# Altium schematic symbol library General - copia.SchLib: 201 symbols (part 2 of 3)
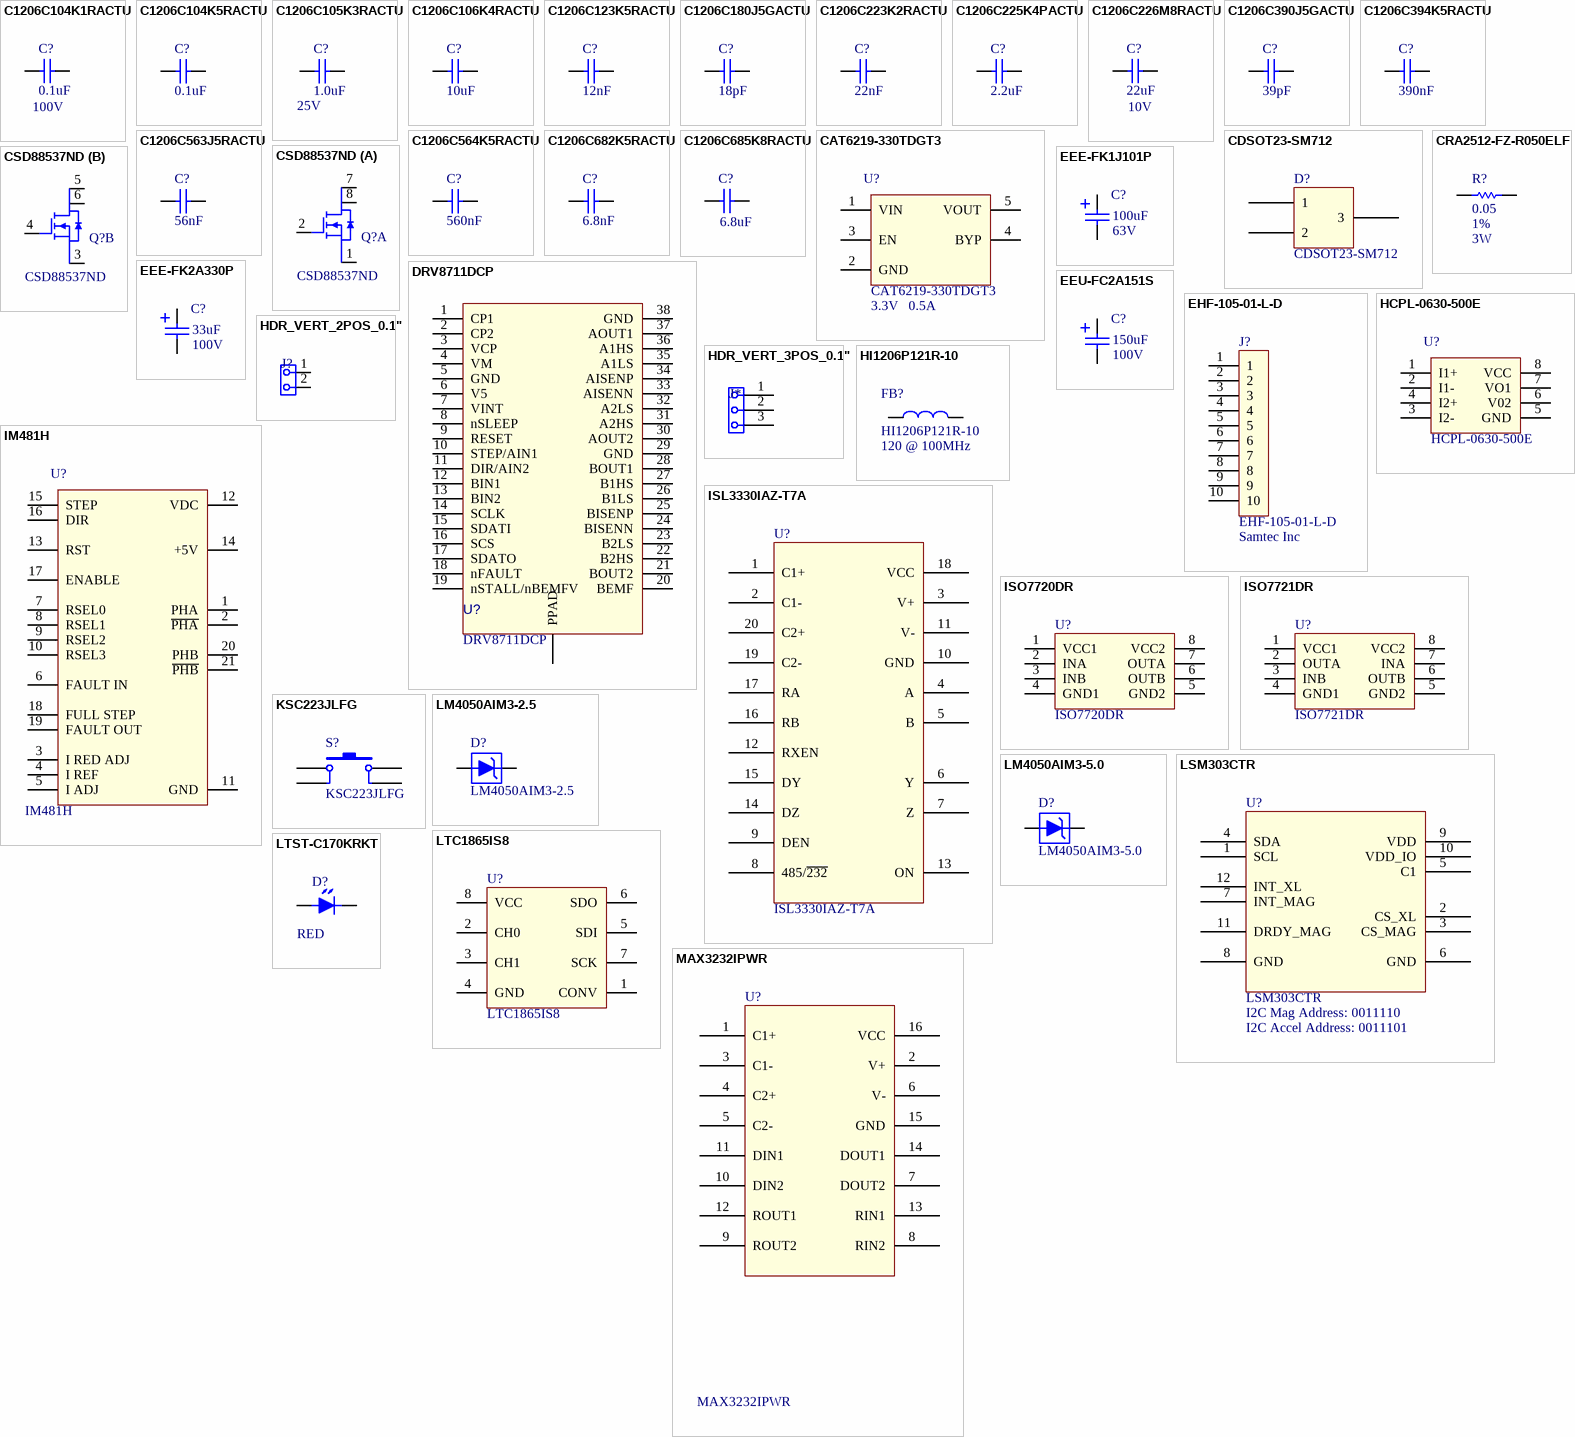
[diagram p8: symbols C1206C104K1RACTU to MAX3232IPWR]

## EEU-FC2A151S
designator C?  value 150uF  Voltage: 100V
CAP ALUM 150UF 20% 100V RADIAL; Part Number: EEU-FC2A151S; Manufacturer: Panasonic Electronic Components; Supplier 1: Digi-Key; Supplier Part Number 1: P10778-ND; Supplier 2: Mouser; Supplier Part Number 2: 667-EEU-FC2A151S
footprint EEU-FC2A151S (CAP ALUM 18x15)
pins: 1, 2

## EHF-105-01-L-D
designator J?  Part Number: EHF-105-01-L-D  Manufacturer: Samtec Inc  (hidden comment: *)
CONN HEADER .05" 10 POS DUAL T/H; Supplier 1: Digi-Key; Supplier Part Number 1: SAM8205-ND; Supplier 2: Mouser; Supplier Part Number 2: 649-221611-00010T4LF
footprint SAMTEC EHF-105-01-L-D
pins: 1, 2, 3, 4, 5, 6, 7, 8, 9, 10

## HCPL-0630-500E
designator U?  Part Number: HCPL-0630-500E  (hidden comment: *)
OPTOISO 3.75KV 2CH OPEN COLL 8SO; Manufacturer: Avago Technologies US Inc.; Supplier 1: Digi-Key; Supplier Part Number 1: 516-1487-1-ND; Supplier 2: Mouser; Supplier Part Number 2: 630-HCPL-0630-500E
footprint SOIC8 (SOIC, 8-Leads, Body 5.0x4.0mm (max), Pitch 1.27mm, IPC Medium Density)
pins: 1 I1+, 2 I1-, 3 I2-, 4 I2+, 5 GND, 6 V02, 7 VO1, 8 VCC

## HDR_VERT_2POS_0.1"
designator J?  (value not drawn)
footprint PIN2 (Radial Cap, Thru-Hole; 2 Leads; 0.1 in Pin Spacing)
pins: 1, 2

## HDR_VERT_3POS_0.1"
designator J*  (value not drawn)
footprint PIN3
pins: 1, 2, 3

## HI1206P121R-10
designator FB?  value 120 @ 100MHz
FERRITE CHIP 4A 120 OHM SMD; Manufacturer: Steward; Part Number: HI1206P121R-10; Supplier 1: Digi-Key; Supplier Part Number 1: 240-2410-1-ND; Supplier 2: Mouser; Supplier Part Number 2: 875-HI1206P121R-10
footprint 1206 - IND - INDC3216X12N (Chip, 2-Leads, Body 3.2x1.6mm, IPC Medium Density)
pins: 1, 2

## IM481H
designator U?  Manufacturer PN: IM481H  (hidden comment: *)
Manufacturer: Schneider
footprint IM481H
pins: 1 PHA, 2 ~{PHA}, 3 I RED ADJ, 4 I REF, 5 I ADJ, 6 FAULT IN, 7 RSEL0, 8 RSEL1, 9 RSEL2, 10 RSEL3, 11 GND, 12 VDC, 13 RST, 14 +5V, 15 STEP, 16 DIR, 17 ENABLE, 18 FULL STEP, 19 FAULT OUT, 20 PHB, 21 ~{PHB}

## ISL3330IAZ-T7A
designator U?
IC TXRX RS232/485 DUAL 20SSOP; Manufacturer: Intersil; Part Number: ISL3330IAZ-T7A; Supplier 1: Digi-Key; Supplier 2: Mouser; Supplier Part Number 1: ISL3330IAZ-ND; Supplier Part Number 2: 968-ISL3330IAZ-T7A
footprint TSSOP20 (TSOP, 14-Leads, Body 5.1x4.5mm (max), Pitch 0.65mm, IPC Low Density)
pins: 1 C1+, 2 C1-, 3 V+, 4 A, 5 B, 6 Y, 7 Z, 8 485/~{232}, 9 DEN, 10 GND, 11 V-, 12 RXEN, 13 ON, 14 DZ, 15 DY, 16 RB, 17 RA, 18 VCC, 19 C2-, 20 C2+

## ISO7720DR
designator U?
DGTL ISO 3KV GEN PRP 8SOIC 2/0; Manufacturer: Texas Instruments; Supplier 1: Digi-Key; Supplier Part Number 1: 296-47780-1-ND; Supplier 2: Mouser; Supplier Part Number 2: 595-ISO7720DR; Part Number: ISO7720DR
footprint SOIC127P600X175-8N (SOIC, 8-Leads, Body 4,90x3,90mm, Pitch 1,27mm, IPC Medium Density)
pins: 1 VCC1, 2 INA, 3 INB, 4 GND1, 5 GND2, 6 OUTB, 7 OUTA, 8 VCC2

## ISO7721DR
designator U?
DGTL ISO 3KV GEN PRP 8SOIC 1/1; Manufacturer: Texas Instruments; Supplier 1: Digi-Key; Supplier Part Number 1: 296-48296-1-ND; Supplier 2: Mouser; Supplier Part Number 2: 595-ISO7721DR; Part Number: ISO7721DR
footprint SOIC127P600X175-8N (SOIC, 8-Leads, Body 4,90x3,90mm, Pitch 1,27mm, IPC Medium Density)
pins: 1 VCC1, 2 OUTA, 3 INB, 4 GND1, 5 GND2, 6 OUTB, 7 INA, 8 VCC2

## KSC223JLFG
designator S?
SWITCH TACTILE SPST-NO 0.01A 32V; Manufacturer: C&K; Part Number: KSC223JLFG; Supplier 1: Digi-Key; Supplier Part Number 1: CKN12117CT-ND; Supplier 2: Mouser; Supplier Part Number 2: 611-KSC223JLFG
footprint KSC_J
pins: 1, 2, 3, 4

## LM4050AIM3-2.5
designator D?
IC VREF SHUNT 2.5V SOT23-3; Manufacturer: Texas Instruments; Voltage: 2.5V; Part Number: LM4050AIM3-2.5; Supplier 1: Digi-Key; Supplier Part Number 1: LM4050AIM3-2.5CT-ND; Supplier 2: Mouser; Supplier Part Number 2: 926-LM4050AIM3-25
footprint SOT23_3P_SOT95P280X140-3N (SOT23, 3-Leads, Body 3.0x3.0mm (max), Pitch 0.95mm, IPC Medium Density)
pins: 1 K, 2 A

## LM4050AIM3-5.0
designator D?
IC VREF SHUNT 5V SOT23-3; Manufacturer: Texas Instruments; Voltage: 5.0V; Part Number: LM4050AIM3-5.0; Supplier 1: Digi-Key; Supplier Part Number 1: LM4050AIM3-5.0/NOPBDKR-ND; Supplier 2: Mouser; Supplier Part Number 2: 926-LM4050AIM350NOPB
footprint SOT23_3P_SOT95P280X140-3N (SOT23, 3-Leads, Body 3.0x3.0mm (max), Pitch 0.95mm, IPC Medium Density)
pins: 1 K, 2 A

## LSM303CTR
designator U?  I2C Mag Address: 0011110  I2C Accel Address: 0011101  (hidden comment: LSM303CTR)
IMU ACCEL/MAG I2C/SPI 12LGA; Manufacturer: STMicroelectronics; Supplier 1: Digi-Key; Supplier Part Number 1: 497-14085-1-ND; Supplier 2: Mouser; Supplier Part Number 2: 511-LSM303CTR; Part Number: LSM303CTR
pins: 1 SCL, 2 CS_XL, 3 CS_MAG, 4 SDA, 5 C1, 6 GND, 7 INT_MAG, 8 GND, 9 VDD, 10 VDD_IO, 11 DRDY_MAG, 12 INT_XL

## LTC1865IS8
designator U?  Part Number: LTC1865IS8  (hidden comment: *)
IC A/D CONV 2CH 16BIT 8-SOIC; Manufacturer: Microchip Technology; Supplier 1: Digi-Key; Supplier Part Number 1: LTC1865IS8#PBF-ND
footprint SOIC8 (SOIC, 8-Leads, Body 5.0x4.0mm (max), Pitch 1.27mm, IPC Medium Density)
pins: 1 CONV, 2 CH0, 3 CH1, 4 GND, 5 SDI, 6 SDO, 7 SCK, 8 VCC

## LTST-C170KRKT
designator D?, comment RED
LED RED CLEAR 0805 SMD; Manufacturer: Lite-On Inc; Part Number: LTST-C170KRKT; Supplier 1: Digi-Key; Supplier Part Number 1: 160-1415-6-ND; Supplier 2: Mouser; Supplier Part Number 2: 859-LTST-C170KRKT
footprint 0805 - LED - LEDC2012X06N (Chip Led 2-Leads, Body 2.0x1.3mm, IPC Medium Density)
pins: 1 A, 2 K

## MAX3232IPWR
designator U?  Part Number: MAX3232IPWR  (hidden comment: *)
IC DRVR/RCVR MLTCH RS232 16TSSOP; Manufacturer: Texas Instruments; Supplier 1: Digi-Key; Supplier Part Number 1: 296-13100-6-ND; Supplier 2: Mouser; Supplier Part Number 2: 595-MAX3232IPWR
footprint TSSOP 16 - TSOP65P640X120-16M (TSOP, 16-Leads, Body 5,1x4,5mm (max), Pitch 0,65mm, IPC Low Density)
pins: 1 C1+, 2 V+, 3 C1-, 4 C2+, 5 C2-, 6 V-, 7 DOUT2, 8 RIN2, 9 ROUT2, 10 DIN2, 11 DIN1, 12 ROUT1, 13 RIN1, 14 DOUT1, 15 GND, 16 VCC

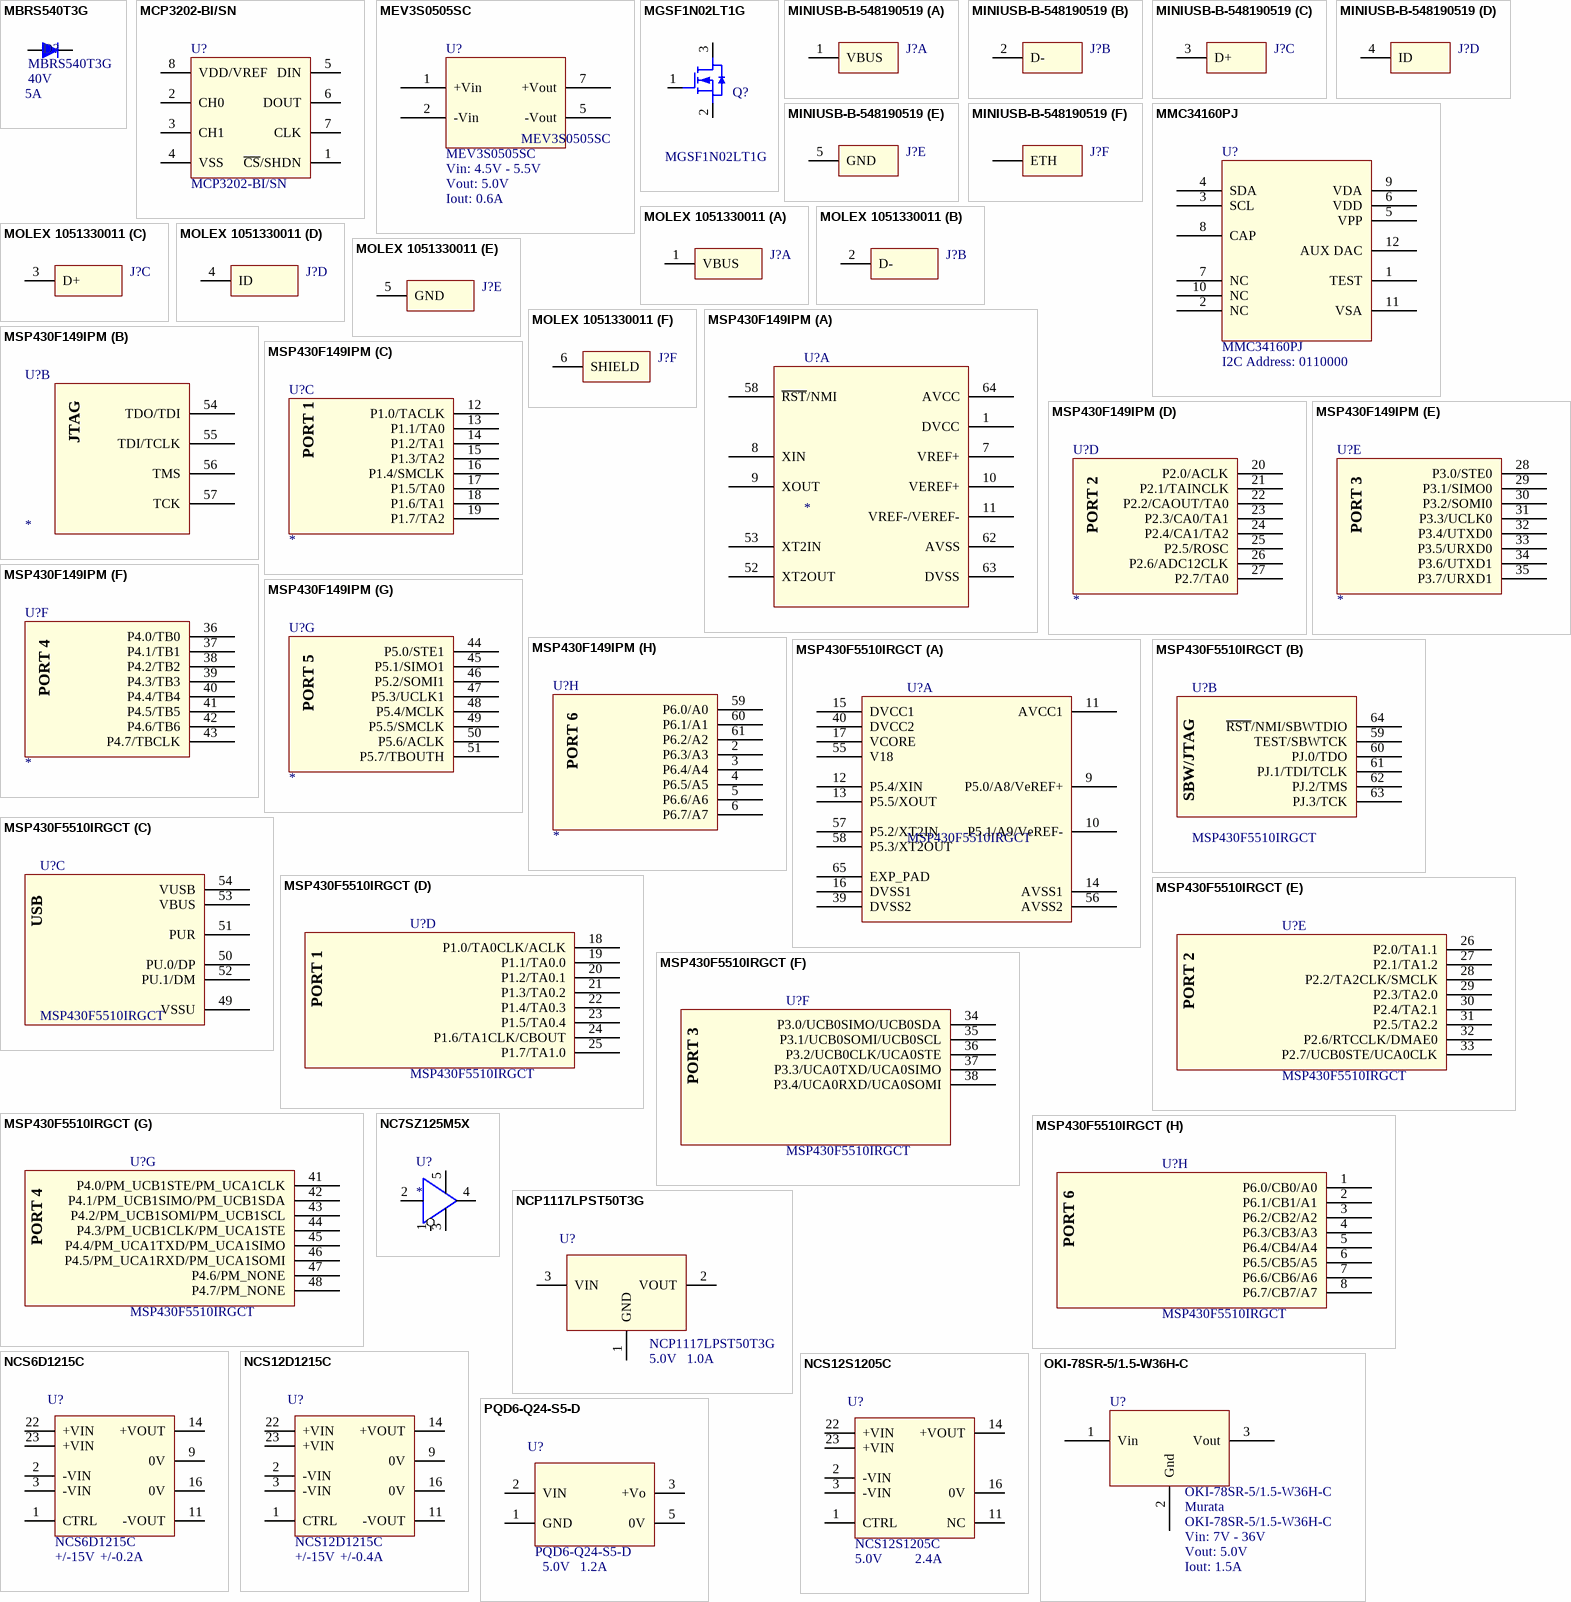
[diagram p3: symbols MBRS540T3G to PQD6-Q24-S5-D]

## MBRS540T3G
designator D?  Part Number: MBRS540T3G  Voltage: 40V  Current: 5A
DIODE SCHOTTKY 40V 5A SMC; Manufacturer: On Semiconductors; Supplier 1: Digi-Key; Supplier Part Number 1: MBRS540T3GOSDKR-ND; Supplier 2: Mouser; Supplier Part Number 2: 863-MBRS540T3G
footprint SMC - DIODE UNIDIR - DIOM6959X25M (Molded Diode, 2-Leads, Body 6,9x5,9mm, IPC Low Density)
pins: 1 A, 2 K

## MCP3202-BI/SN
designator U?
IC ADC 12BIT 2.7V 2CH SPI 8MSOP; Manufacturer: Microchip Technology; Supplier 1: Digi-Key; Supplier Part Number 1: MCP3202-BI/SN-ND; Supplier 2: Mouser; Supplier Part Number 2: 579-MCP3202BISN; Part Number: MCP3202-BI/SN
footprint SOIC127P600X175-8N (SOIC, 8-Leads, Body 4,90x3,90mm, Pitch 1,27mm, IPC Medium Density)
pins: 1 ~{CS}/SHDN, 2 CH0, 3 CH1, 4 VSS, 5 DIN, 6 DOUT, 7 CLK, 8 VDD/VREF

## MEV3S0505SC
designator U?  Vin: 4.5V - 5.5V  Iout: 0.6A  Vout: 5.0V
DC DC CONVERTER 5V 3W; Manufacturer: Murata Power Solutions Inc.; Isolation: 3000V; Supplier 1: Digi-Key; Supplier Part Number 1: 811-2116-5-ND; Supplier 2: Mouser; Supplier Part Number 2: 580-MEV3S0505SC; Part Number: MEV3S0505SC
footprint MEV3S0505SC
pins: 1 +Vin, 2 -Vin, 5 -Vout, 7 +Vout

## MGSF1N02LT1G
designator Q?
MOSFET N-CH 20V 750MA SOT23; Manufacturer: ON Semiconductor; Supplier 1: Digi-Key; Supplier Part Number 1: MGSF1N02LT1GOSDKR-ND; Supplier 2: Mouser; Supplier Part Number 2: 863-MGSF1N02LT1G; Part Number: MGSF1N02LT1G
footprint SOT23_3P_SOT95P280X140-3N (SOT23, 3-Leads, Body 3.0x3.0mm (max), Pitch 0.95mm, IPC Medium Density)
pins: 1 G, 2 S, 3 D

## MINIUSB-B-548190519
designator J?, comment Mini USB Type B  (value not drawn)
CONN USB RECEPTACLE 5POS RT ANG; Part Number: 548190519; Manufacturer: Molex; Supplier 1: Digi-Key; Supplier Part Number 1: WM17115-ND; Supplier 2: Mouser; Supplier Part Number 2: 538-54819-0519
footprint MOLEX-MINIUSB-B-548190519 (Conector Mini USB Type B Through Hole)
part A pins: 1 VBUS
part B pins: 2 D-
part C pins: 3 D+
part D pins: 4 ID
part E pins: 5 GND
part F pins: 6 ETH

## MMC34160PJ
designator U?  I2C Address: 0110000  (hidden comment: MMC34160PJ)
SENSOR MAGMTR I2C 12BGA; Manufacturer: Memsic Inc.; Supplier 1: Digi-Key; Supplier Part Number 1: 1267-1062-1-ND; Supplier 2: Mouser; Supplier Part Number 2: 438-MMC34160PJ; Part Number: MMC34160PJ
footprint BGA12C40P4X4_160X160X72 (BGA, 12-Leads, Body 1,60x1,60mmx0,72mm, Pitch 0,40mm)
pins: 1 TEST, 2 NC, 3 SCL, 4 SDA, 5 VPP, 6 VDD, 7 NC, 8 CAP, 9 VDA, 10 NC, 11 VSA, 12 AUX DAC

## MOLEX 1051330011
designator J?, comment 1051330011  (value not drawn)
CONN RCPT USB2.0 MICRO B SMD; Manufacturer: Molex; Part Number: 1051330011; Supplier 1: Digi-Key; Supplier Part Number 1: WM10134CT-ND; Supplier 2: Mouser; Supplier Part Number 2: 538-105133-0011
footprint MOLEX 1051330011 (Micro USB Type B Vertical)
part A pins: 1 VBUS
part B pins: 2 D-
part C pins: 3 D+
part D pins: 4 ID
part E pins: 5 GND
part F pins: 6 SHIELD

## MSP430F149IPM
designator U?
IC MCU 16BIT 60KB FLASH 64LQFP; Part Number: MSP430F149IPM; Fabricante: Texas Instruments
footprint TQFP - 64 - TSQFP50P1200X1200X160-64M (TSQFP, 64-Leads, Body 12,0x12,0mm (max), Pitch 0,50mm, IPC Low Density)
part A pins: 1 DVCC, 7 VREF+, 8 XIN, 9 XOUT, 10 VEREF+, 11 VREF-/VEREF-, 52 XT2OUT, 53 XT2IN, 58 ~{RST}/NMI, 62 AVSS, 63 DVSS, 64 AVCC
part B pins: 54 TDO/TDI, 55 TDI/TCLK, 56 TMS, 57 TCK
part C pins: 12 P1.0/TACLK, 13 P1.1/TA0, 14 P1.2/TA1, 15 P1.3/TA2, 16 P1.4/SMCLK, 17 P1.5/TA0, 18 P1.6/TA1, 19 P1.7/TA2
part D pins: 20 P2.0/ACLK, 21 P2.1/TAINCLK, 22 P2.2/CAOUT/TA0, 23 P2.3/CA0/TA1, 24 P2.4/CA1/TA2, 25 P2.5/ROSC, 26 P2.6/ADC12CLK, 27 P2.7/TA0
part E pins: 28 P3.0/STE0, 29 P3.1/SIMO0, 30 P3.2/SOMI0, 31 P3.3/UCLK0, 32 P3.4/UTXD0, 33 P3.5/URXD0, 34 P3.6/UTXD1, 35 P3.7/URXD1
part F pins: 36 P4.0/TB0, 37 P4.1/TB1, 38 P4.2/TB2, 39 P4.3/TB3, 40 P4.4/TB4, 41 P4.5/TB5, 42 P4.6/TB6, 43 P4.7/TBCLK
part G pins: 44 P5.0/STE1, 45 P5.1/SIMO1, 46 P5.2/SOMI1, 47 P5.3/UCLK1, 48 P5.4/MCLK, 49 P5.5/SMCLK, 50 P5.6/ACLK, 51 P5.7/TBOUTH
part H pins: 2 P6.3/A3, 3 P6.4/A4, 4 P6.5/A5, 5 P6.6/A6, 6 P6.7/A7, 59 P6.0/A0, 60 P6.1/A1, 61 P6.2/A2
part B text: JTAG
part C text: PORT 1
part D text: PORT 2
part E text: PORT 3
part F text: PORT 4
part G text: PORT 5
part H text: PORT 6

## MSP430F5510IRGCT
designator U?
IC MCU 16BIT 32KB FLASH 64VQFN; Manufacturer: Texas Instruments; Part Number: MSP430F5510IRGCT; Supplier 1: Digi-Key; Supplier Part Number 1: 296-31691-1-ND; Supplier 2: Mouser; Supplier Part Number 2: 595-MSP430F5510IRGCT
footprint QFN50P900X900X100_HS-65N (QFN, 64-Leads, Body 9,00x9,00mm, Pitch 0,50mm, Thermal Pad 4,25x4,25mm, IPC Medium Density)
part A pins: 9 P5.0/A8/VeREF+, 10 P5.1/A9/VeREF-, 11 AVCC1, 12 P5.4/XIN, 13 P5.5/XOUT, 14 AVSS1, 15 DVCC1, 16 DVSS1, 17 VCORE, 39 DVSS2, 40 DVCC2, 55 V18, 56 AVSS2, 57 P5.2/XT2IN, 58 P5.3/XT2OUT, 65 EXP_PAD
part B pins: 59 TEST/SBWTCK, 60 PJ.0/TDO, 61 PJ.1/TDI/TCLK, 62 PJ.2/TMS, 63 PJ.3/TCK, 64 ~{RST}/NMI/SBWTDIO
part C pins: 49 VSSU, 50 PU.0/DP, 51 PUR, 52 PU.1/DM, 53 VBUS, 54 VUSB
part D pins: 18 P1.0/TA0CLK/ACLK, 19 P1.1/TA0.0, 20 P1.2/TA0.1, 21 P1.3/TA0.2, 22 P1.4/TA0.3, 23 P1.5/TA0.4, 24 P1.6/TA1CLK/CBOUT, 25 P1.7/TA1.0
part E pins: 26 P2.0/TA1.1, 27 P2.1/TA1.2, 28 P2.2/TA2CLK/SMCLK, 29 P2.3/TA2.0, 30 P2.4/TA2.1, 31 P2.5/TA2.2, 32 P2.6/RTCCLK/DMAE0, 33 P2.7/UCB0STE/UCA0CLK
part F pins: 34 P3.0/UCB0SIMO/UCB0SDA, 35 P3.1/UCB0SOMI/UCB0SCL, 36 P3.2/UCB0CLK/UCA0STE, 37 P3.3/UCA0TXD/UCA0SIMO, 38 P3.4/UCA0RXD/UCA0SOMI
part G pins: 41 P4.0/PM_UCB1STE/PM_UCA1CLK, 42 P4.1/PM_UCB1SIMO/PM_UCB1SDA, 43 P4.2/PM_UCB1SOMI/PM_UCB1SCL, 44 P4.3/PM_UCB1CLK/PM_UCA1STE, 45 P4.4/PM_UCA1TXD/PM_UCA1SIMO, 46 P4.5/PM_UCA1RXD/PM_UCA1SOMI, 47 P4.6/PM_NONE, 48 P4.7/PM_NONE
part H pins: 1 P6.0/CB0/A0, 2 P6.1/CB1/A1, 3 P6.2/CB2/A2, 4 P6.3/CB3/A3, 5 P6.4/CB4/A4, 6 P6.5/CB5/A5, 7 P6.6/CB6/A6, 8 P6.7/CB7/A7
part B text: SBW/JTAG
part C text: USB
part D text: PORT 1
part E text: PORT 2
part F text: PORT 3
part G text: PORT 4
part H text: PORT 6

## NC7SZ125M5X
designator U?
IC BUFF TRI-ST UHS N-INV SOT23-5; Part Number: NC7SZ125M5X; Manufacturer: Fairchild Semiconductor; Supplier 1: Digi-Key; Supplier Part Number 1: NC7SZ125M5CT-ND; Supplier 2: Mouser; Supplier Part Number 2: 512-NC7SZ125M5X
footprint SOT23_5P_SOT95P280X140-5N (SOT23, 5-Leads, Body 3.0x3.0mm (max), Pitch 0.95mm, IPC Medium Density)
pins: 1 OE, 2 A, 3 GND, 4 Y, 5 VCC

## NCP1117LPST50T3G
designator U?  Part Number: NCP1117LPST50T3G  Voltage: 5.0V  Current: 1.0A  (hidden comment: *)
IC REG LDO 5V 1A SOT223; Manufacturer: ON Semiconductor; Supplier 1: Digi-Key; Supplier Part Number 1: NCP1117LPST50T3GOSDKR-ND; Supplier 2: Mouser; Supplier Part Number 2: 863-NCP1117LPST50T3G
footprint SOT223 (SOT223, 4-Leads, Body 6.50x7.00mm (avg), Pitch 2.30mm, IPC Medium Density)
pins: 1 GND, 2 VOUT, 3 VIN

## NCS6D1215C
designator U?  Part Number: NCS6D1215C  Voltage: +/-15V  Current: +/-0.2A  (hidden comment: *)
DC/DC CONVERTER +/-15V 6W; Manufacturer: Murata Power Solutions Inc.; Supplier 1: Digi-Key; Supplier Part Number 1: 811-2312-ND
footprint NCS12DXXXXC
pins: 1 CTRL, 2 -VIN, 3 -VIN, 9 0V, 11 -VOUT, 14 +VOUT, 16 0V, 22 +VIN, 23 +VIN

## NCS12D1215C
designator U?  Part Number: NCS12D1215C  Voltage: +/-15V  Current: +/-0.4A  (hidden comment: *)
DC/DC CONVERTER +/-15V 12W; Manufacturer: Murata Power Solutions Inc.
footprint NCS12DXXXXC
pins: 1 CTRL, 2 -VIN, 3 -VIN, 9 0V, 11 -VOUT, 14 +VOUT, 16 0V, 22 +VIN, 23 +VIN

## NCS12S1205C
designator U?  Part Number: NCS12S1205C  Voltage: 5.0V  Current: 2.4A  (hidden comment: *)
DC/DC CONVERTER 5V 12W; Manufacturer: Murata Power Solutions Inc.; Supplier 1: Digi-Key; Supplier Part Number 1: 811-2873-5-ND
footprint NCS12SXXXXC
pins: 1 CTRL, 2 -VIN, 3 -VIN, 11 NC, 14 +VOUT, 16 0V, 22 +VIN, 23 +VIN

## OKI-78SR-5/1.5-W36H-C
designator U?  Vin: 7V - 36V  Vout: 5.0V  Iout: 1.5A  Manufacturer: Murata
DC/DC 8-36VIN/3.3VOUT .5A HSIP; Supplier 1: Digi-Key; Supplier Part Number 1: 811-2692-ND; Supplier 2: Mouser; Supplier Part Number 2: 580-OKI78SR51.5W36HC; Part Number: OKI-78SR-5/1.5-W36H-C
footprint MURATA - OKI-78SR - HORIZONTAL (Non-Isolated DC-DC Converter)
footprint MURATA - OKI-78SR - VERT (Non-Isolated DC-DC Converter)
pins: 1 Vin, 2 Gnd, 3 Vout

## PQD6-Q24-S5-D
designator U?  Part Number: PQD6-Q24-S5-D  Voltage: 5.0V  Current: 1.2A  (hidden comment: *)
DC/DC CONVERTER 5V 1.2A 6W; Manufacturer: CUI Inc.
footprint PQD6-Q24-S5-D (DC/DC CONVERTER 5V 1.2A 6W)
pins: 1 GND, 2 VIN, 3 +Vo, 5 0V

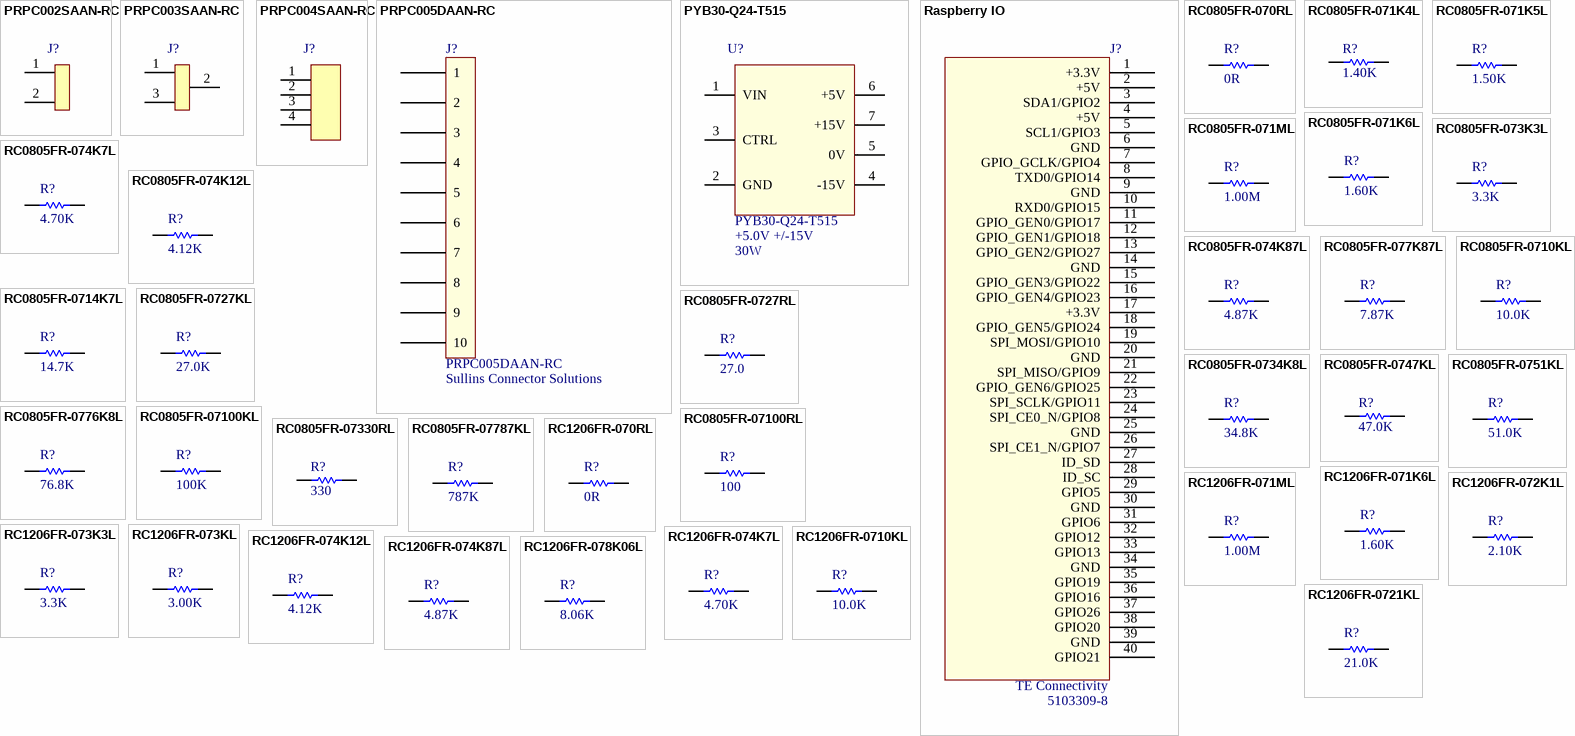
[diagram p4: symbols PRPC002SAAN-RC to RC1206FR-0721KL]

## PRPC002SAAN-RC
designator J?  (value not drawn)
CONN HEADER .100" SNGL STR 2POS; Manufacturer: Sullins Connector Solutions; Part Number: PRPC002SAAN-RC; Supplier 1: Digi-Key; Supplier Part Number 1: S1011EC-02-ND
footprint PRPC002SAAN-RC
pins: 1, 2

## PRPC003SAAN-RC
designator J?  (value not drawn)
CONN HEADER .100" SNGL STR 3POS; Manufacturer: Sullins Connector Solutions; Part Number: PRPC003SAAN-RC; Supplier 1: Digi-Key; Supplier Part Number 1: S1011EC-03-ND
footprint PRPC003SAAN-RC
pins: 1, 2, 3

## PRPC004SAAN-RC
designator J?  (value not drawn)
CONN HEADER .100" SNGL STR 4POS; Manufacturer: Sullins Connector Solutions; Part Number: PRPC004SAAN-RC; Supplier 1: Digi-Key; Supplier Part Number 1: S1011EC-04-ND
footprint PRPC004SAAN-RC
pins: 1, 2, 3, 4

## PRPC005DAAN-RC
designator J?  Manufacturer: Sullins Connector Solutions  Part Number: PRPC005DAAN-RC
CONN HEADER .100" DUAL STR 10POS; Supplier 1: Digi-Key; Supplier Part Number 1: S2011EC-05-ND
footprint PRPC005DAAN-RC
pins: 1, 2, 3, 4, 5, 6, 7, 8, 9, 10

## PYB30-Q24-T515
designator U?  Part Number: PYB30-Q24-T515  Voltage: +5.0V +/-15V  Current: 30W  (hidden comment: *)
DC/DC CONVERTER 5V +/-15V 30W; Manufacturer: CUI Inc.; Supplier 1: Digi-Key; Supplier Part Number 1: 102-2953-ND; Supplier 2: Mouser; Supplier Part Number 2: 490-PYB30-Q24-T515
footprint PYB30-Q24-T515 (DC/DC CONVERTER 5V +/-15V 30W)
pins: 1 VIN, 2 GND, 3 CTRL, 4 -15V, 5 0V, 6 +5V, 7 +15V

## Raspberry IO
designator J?  Manufacturer: TE Connectivity  Part Number: 5103309-8
CONN HEADER VERT 40POS 2.54MM; Supplier 1: Digi-Key; Supplier Part Number 1: A33171-ND; Supplier 2: Mouser; Supplier Part Number 2: 571-5103309-8
footprint TE-640455-7 (CONN HEADER RTANG 2POS .100 TIN)
pins: 1 +3.3V, 2 +5V, 3 SDA1/GPIO2, 4 +5V, 5 SCL1/GPIO3, 6 GND, 7 GPIO_GCLK/GPIO4, 8 TXD0/GPIO14, 9 GND, 10 RXD0/GPIO15, 11 GPIO_GEN0/GPIO17, 12 GPIO_GEN1/GPIO18, 13 GPIO_GEN2/GPIO27, 14 GND, 15 GPIO_GEN3/GPIO22, 16 GPIO_GEN4/GPIO23, 17 +3.3V, 18 GPIO_GEN5/GPIO24, 19 SPI_MOSI/GPIO10, 20 GND, 21 SPI_MISO/GPIO9, 22 GPIO_GEN6/GPIO25, 23 SPI_SCLK/GPIO11, 24 SPI_CE0_N/GPIO8, 25 GND, 26 SPI_CE1_N/GPIO7, 27 ID_SD, 28 ID_SC, 29 GPIO5, 30 GND, 31 GPIO6, 32 GPIO12, 33 GPIO13, 34 GND, 35 GPIO19, 36 GPIO16, 37 GPIO26, 38 GPIO20, 39 GND, 40 GPIO21

## RC0805FR-070RL
designator R?  value 0R  (hidden comment: RC0805FR-070RL)
RES SMD 0.0 OHM JUMPER 1/8W 0805; Manufacturer: Yageo; Part Number: RC0805FR-070RL; Supplier 1: Digi-Key; Supplier Part Number 1: 311-0.0CRDKR-ND; Supplier 2: Digi-Key; Supplier Part Number 2: 311-0.0CRCT-ND; Supplier 3: Mouser; Supplier Part Number 3: 603-RC0805FR-070RL
footprint 0805 - RES - RESC2012X06N (Chip Resistor, 2-Leads, Body 2.0x1.3mm, IPC Medium Density)
pins: 1, 2

## RC0805FR-071K4L
designator R?  value 1.40K  (hidden comment: *)
RES SMD 1.4K OHM 1% 1/8W 0805; Manufacturer: Yageo; Manufacturer Part Number: RC0805FR-071K4L; Resistance: 1.4kR; Temperature Coefficient: 100ppm/°C; Power Rating: 125mW; Voltage Rating: 150V; Supplier 1: Digi-Key; RoHS: Yes; Category: Chip SMD Resistors; Stock 1: 156337; Pricing 1: 1=0,10000, 10=0,03600, 100=0,01470, 1000=0,00660, 2500=0,00573 (USD); Case/Package: 0805; Contact Plating: Tin,Matte; Case Code (Metric): 2012; Case Code (Imperial): 0805; Weight: 0.000194oz; Size Code: 0805; Min Operating Temperature: -55°C; Max Operating Temperature: 155°C; Tolerance: 1%; Resistor Type: Thick Film; Package Quantity: 1; Packaging: Tape and Reel; Number of Terminations: 2; Termination: SMD/SMT; Max Power Dissipation: 125mW; Voltage Rating (DC): 150V; Features: Moisture Resistant; Series: RC; Construction: Rectangular; Length: 2mm; Width: 0.049inch; Height: 0.024inch; Depth: 1.25mm; Radiation Hardening: No; Military Standard: Not; Lead Free: Lead Free; RoHS Compliant: Yes; ComponentLink1URL: https://datasheet.ciiva.com/2519/pyu-r-int-thick-7-2519780.pdf?src-supplier=Digi-Key; ComponentLink1Description: https://datasheet.ciiva.com/2519/pyu-r-int-thick-7-2519780.pdf?src-supplier=Digi-Key; ComponentLink2URL: https://datasheet.ciiva.com/2519/pyu-r-int-thick-7-2519781.pdf?src-supplier=Digi-Key; ComponentLink2Description: https://datasheet.ciiva.com/2519/pyu-r-int-thick-7-2519781.pdf?src-supplier=Digi-Key; ComponentLink3URL: https://datasheet.ciiva.com/5596/rc0805-5596057.pdf?src-supplier=Mouser; ComponentLink3Description: https://datasheet.ciiva.com/5596/rc0805-5596057.pdf?src-supplier=Mouser; ComponentLink4URL: https://datasheet.ciiva.com/2519/pyu-r-int-thick-7-2519782.pdf?src-supplier=Digi-Key; ComponentLink4Description: https://datasheet.ciiva.com/2519/pyu-r-int-thick-7-2519782.pdf?src-supplier=Digi-Key; ComponentLink5URL: https://datasheet.ciiva.com/17033/rc0805-17033654.pdf?src-supplier=Future+Electronics; ComponentLink5Description: https://datasheet.ciiva.com/17033/rc0805-17033654.pdf?src-supplier=Future+Electronics; Supplier Part Number 1: 311-1.40KCRCT-ND; Supplier 2: Digi-Key; Part Number: RC0805FR-071K4L; Supplier Part Number 2: 311-330CRCT-ND
footprint 0805 - RES - RESC2012X06N (Chip Resistor, 2-Leads, Body 2.0x1.3mm, IPC Medium Density)
pins: 1, 2

## RC0805FR-071K5L
designator R?  value 1.50K  (hidden comment: RC0805FR-071K5L)
RES SMD 1.5K OHM 1% 1/8W 0805; Manufacturer: Yageo; Tolerance: 1%; Part Number: RC0805FR-071K5L; Supplier 1: Digi-Key; Supplier Part Number 1: 311-1.50KCRCT-ND; Supplier 2: Mouser; Supplier Part Number 2: 603-RC0805FR-071K5L
footprint 0805 - RES - RESC2012X06N (Chip Resistor, 2-Leads, Body 2.0x1.3mm, IPC Medium Density)
pins: 1, 2

## RC0805FR-071K6L
designator R?  value 1.60K  (hidden comment: RC0805FR-071K6L)
RES SMD 1.6K OHM 1% 1/8W 0805; Manufacturer: Yageo; Tolerance: 1%; Part Number: RC0805FR-071K6L; Supplier 1: Digi-Key; Supplier Part Number 1: 311-1.60KCRDKR-ND; Supplier 2: Digi-Key; Supplier Part Number 2: 311-1.60KCRCT-ND; Supplier 3: Mouser; Supplier Part Number 3: 603-RC0805FR-071K6L
footprint 0805 - RES - RESC2012X06N (Chip Resistor, 2-Leads, Body 2.0x1.3mm, IPC Medium Density)
pins: 1, 2

## RC0805FR-071ML
designator R?  value 1.00M  (hidden comment: RC0805FR-071ML)
RES SMD 1M OHM 1% 1/8W 0805; Manufacturer: Yageo; Tolerance: 1%; Part Number: RC0805FR-071ML; Supplier 1: Digi-Key; Supplier Part Number 1: 311-1.00MCRDKR-ND; Supplier 2: Digi-Key; Supplier Part Number 2: 311-1.00MCRCT-ND; Supplier 3: Mouser; Supplier Part Number 3: 603-RC0805FR-071ML
footprint 0805 - RES - RESC2012X06N (Chip Resistor, 2-Leads, Body 2.0x1.3mm, IPC Medium Density)
pins: 1, 2

## RC0805FR-073K3L
designator R?  value 3.3K
RES SMD 3.3K OHM 1% 1/8W 0805; Manufacturer: Yageo; Part Number: RC0805FR-073K3L; Supplier 1: Digi-Key; Supplier Part Number 1: 311-3.30KCRCT-ND; Supplier 2: Mouser; Supplier Part Number 2: 603-RC0805FR-073K3L
footprint 0805 - RES - RESC2012X06N (Chip Resistor, 2-Leads, Body 2.0x1.3mm, IPC Medium Density)
pins: 1, 2

## RC0805FR-074K7L
designator R?  value 4.70K
RES SMD 4.7K OHM 1% 1/8W 0805; Manufacturer: Yageo; Part Number: RC0805FR-074K7L; Supplier 1: Digi-Key; Supplier Part Number 1: 311-4.70KCRCT-ND; Supplier 2: Mouser; Supplier Part Number 2: 603-RC0805FR-074K7L
footprint 0805 - RES - RESC2012X06N (Chip Resistor, 2-Leads, Body 2.0x1.3mm, IPC Medium Density)
pins: 1, 2

## RC0805FR-074K12L
designator R?  value 4.12K  (hidden comment: RC0805FR-074K12L)
RES SMD 4.12K OHM 1% 1/8W 0805; Manufacturer: Yageo; Part Number: RC0805FR-074K12L; Supplier 1: Digi-Key; Supplier Part Number 1: 311-4.12KCRDKR-ND; Supplier 2: Digi-Key; Supplier Part Number 2: 311-4.12KCRCT-ND; Supplier 3: Mouser; Supplier Part Number 3: 603-RC0805FR-074K12L
footprint 0805 - RES - RESC2012X06N (Chip Resistor, 2-Leads, Body 2.0x1.3mm, IPC Medium Density)
pins: 1, 2

## RC0805FR-074K87L
designator R?  value 4.87K  (hidden comment: RC0805FR-074K87L)
RES SMD 4.87K OHM 1% 1/4W 0805; Manufacturer: Yageo; Part Number: RC0805FR-074K87L; Supplier 1: Digi-Key; Supplier Part Number 1: 311-4.87KCRCT-ND; Supplier 2: Mouser; Supplier Part Number 2: 603-RC0805FR-074K87L
footprint 0805 - RES - RESC2012X06N (Chip Resistor, 2-Leads, Body 2.0x1.3mm, IPC Medium Density)
pins: 1, 2

## RC0805FR-077K87L
designator R?  value 7.87K  (hidden comment: RC0805FR-077K87L)
RES SMD 7.87K OHM 1% 1/8W 0805; Manufacturer: Yageo; Tolerance: 1%; Part Number: RC0805FR-077K87L; Supplier 1: Digi-Key; Supplier Part Number 1: 311-7.87KCRCT-ND; Supplier 2: Mouser; Supplier Part Number 2: 603-RC0805FR-077K87L
footprint 0805 - RES - RESC2012X06N (Chip Resistor, 2-Leads, Body 2.0x1.3mm, IPC Medium Density)
pins: 1, 2

## RC0805FR-0710KL
designator R?  value 10.0K  (hidden comment: RC0805FR-0710KL)
RES SMD 10.0K OHM 1% 1/8W 0805; Manufacturer: Yageo; Tolerance: 1%; Part Number: RC0805FR-0710KL; Supplier 1: Digi-Key; Supplier Part Number 1: 311-10.0KCRCT-ND; Supplier 2: Mouser; Supplier Part Number 2: 603-RC0805FR-0710KL
footprint 0805 - RES (Chip Resistor, 2-Leads, Body 2.00x1.25mm, IPC Medium Density)
pins: 1, 2

## RC0805FR-0714K7L
designator R?  value 14.7K  (hidden comment: RC0805FR-0714K7L)
RES SMD 14.7K OHM 1% 1/8W 0805; Manufacturer: Yageo; Tolerance: 1%; Part Number: RC0805FR-0714K7L; Supplier 1: Digi-Key; Supplier Part Number 1: 311-14.7KCRCT-ND; Supplier 2: Mouser; Supplier Part Number 2: 603-RC0805FR-0714K7L
footprint 0805 - RES - RESC2012X06N (Chip Resistor, 2-Leads, Body 2.0x1.3mm, IPC Medium Density)
pins: 1, 2

## RC0805FR-0727KL
designator R?  value 27.0K  (hidden comment: RC0805FR-0727KL)
RES SMD 27K OHM 1% 1/8W 0805; Manufacturer: Yageo; Tolerance: 1%; Part Number: RC0805FR-0727KL; Supplier 1: Digi-Key; Supplier Part Number 1: 311-27.0KCRCT-ND; Supplier 2: Mouser; Supplier Part Number 2: 603-RC0805FR-0727KL
footprint 0805 - RES - RESC2012X06N (Chip Resistor, 2-Leads, Body 2.0x1.3mm, IPC Medium Density)
pins: 1, 2

## RC0805FR-0727RL
designator R?  value 27.0  (hidden comment: RC0805FR-0727RL)
RES SMD 27 OHM 1% 1/8W 0805; Manufacturer: Yageo; Tolerance: 1%; Part Number: RC0805FR-0727RL; Supplier 1: Digi-Key; Supplier Part Number 1: 311-27.0CRCT-ND; Supplier 2: Mouser; Supplier Part Number 2: 603-RC0805FR-0727RL
footprint 0805 - RES - RESC2012X06N (Chip Resistor, 2-Leads, Body 2.0x1.3mm, IPC Medium Density)
pins: 1, 2

## RC0805FR-0734K8L
designator R?  value 34.8K  (hidden comment: RC0805FR-0734K8L)
RES SMD 34.8K OHM 1% 1/8W 0805; Manufacturer: Yageo; Part Number: RC0805FR-0734K8L; Supplier 1: Digi-Key; Supplier Part Number 1: 311-34.8KCRCT-ND; Supplier 2: Mouser; Supplier Part Number 2: 603-RC0805FR-0734K8L
footprint 0805 - RES - RESC2012X06N (Chip Resistor, 2-Leads, Body 2.0x1.3mm, IPC Medium Density)
pins: 1, 2

## RC0805FR-0747KL
designator R?  value 47.0K  (hidden comment: *)
RES SMD 47K OHM 1% 1/8W 0805; Manufacturer: Yageo; Manufacturer Part Number: RC0805FR-0747KL; Resistance: 47kR; Temperature Coefficient: 100ppm/°C; Voltage Rating (DC): 150V; Power Rating: 125mW; Supplier 1: Digi-Key; RoHS: Yes; Category: Chip SMD Resistors; Stock 1: 548413; Pricing 1: 1=0,10000, 10=0,03600, 100=0,01470, 1000=0,00660, 2500=0,00573 (USD); Case/Package: 0805; Number of Pins: 2; Contact Plating: Tin,Matte; Case Code (Imperial): 0805; Case Code (Metric): 2012; Size Code: 0805; Min Operating Temperature: -55°C; Max Operating Temperature: 155°C; Tolerance: 1%; Resistor Type: Thick Film; Packaging: Tape and Reel; Number of Terminations: 2; Voltage Rating: 150V; Termination: SMD/SMT; Features: Moisture Resistant; Series: RC; Max Power Dissipation: 125mW; Resistance Tolerance: 1%; Length: 2mm; Width: 1.25mm; Height: 0.5mm; Depth: 1.25mm; Radiation Hardening: No; REACH SVHC: Unknown; Lead Free: Lead Free; RoHS Compliant: Yes; ComponentLink1URL: https://datasheet.ciiva.com/7941/1686128-7941799.pdf?src-supplier=Element14; ComponentLink1Description: https://datasheet.ciiva.com/7941/1686128-7941799.pdf?src-supplier=Element14; ComponentLink2URL: https://datasheet.ciiva.com/7941/444164-7941800.pdf?src-supplier=Element14; ComponentLink2Description: https://datasheet.ciiva.com/7941/444164-7941800.pdf?src-supplier=Element14; ComponentLink3URL: https://datasheet.ciiva.com/7941/444164-7941801.pdf?src-supplier=Element14; ComponentLink3Description: https://datasheet.ciiva.com/7941/444164-7941801.pdf?src-supplier=Element14; ComponentLink4URL: https://datasheet.ciiva.com/16742/rc0805-16742265.pdf?src-supplier=Future+Electronics; ComponentLink4Description: https://datasheet.ciiva.com/16742/rc0805-16742265.pdf?src-supplier=Future+Electronics; ComponentLink5URL: https://datasheet.ciiva.com/46447/444164-46447581.pdf?src-supplier=Element14; ComponentLink5Description: https://datasheet.ciiva.com/46447/444164-46447581.pdf?src-supplier=Element14; Supplier Part Number 1: 311-47.0KCRCT-ND; Part Number: RC0805FR-0747KL
footprint 0805 - RES - RESC2012X06N (Chip Resistor, 2-Leads, Body 2.0x1.3mm, IPC Medium Density)
pins: 1, 2

## RC0805FR-0751KL
designator R?  value 51.0K  (hidden comment: RC0805FR-0751KL)
RES SMD 51K OHM 1% 1/8W 0805; Manufacturer: Yageo; Tolerance: 1%; Part Number: RC0805FR-0751KL; Supplier 1: Digi-Key; Supplier Part Number 1: 311-51.0KCRDKR-ND; Supplier 2: Digi-Key; Supplier Part Number 2: 311-51.0KCRCT-ND; Supplier 3: Mouser; Supplier Part Number 3: 603-RC0805FR-0751KL
footprint 0805 - RES - RESC2012X06N (Chip Resistor, 2-Leads, Body 2.0x1.3mm, IPC Medium Density)
pins: 1, 2

## RC0805FR-0776K8L
designator R?, comment value 76.8K  (hidden comment: RC1206FR-0776K8L)
RES SMD 76.8K OHM 1% 1/8W 0805; Manufacturer: Yageo; Part Number: RC1206FR-0776K8L; Supplier 1: Digi-Key; Supplier Part Number 1: 311-76.8KCRDKR-ND; Supplier 2: Digi-Key; Supplier Part Number 2: 311-76.8KFRCT-ND; Supplier 3: Mouser; Supplier Part Number 3: 603-RC1206FR-0776K8L
footprint 0805 - RES - RESC2012X06N (Chip Resistor, 2-Leads, Body 2.0x1.3mm, IPC Medium Density)
pins: 1, 2

## RC0805FR-07100KL
designator R?  value 100K  (hidden comment: RC0805FR-07100KL)
RES SMD 100K OHM 1% 1/8W 0805; Manufacturer: Yageo; Tolerance: 1%; Part Number: RC0805FR-07100KL; Supplier 1: Digi-Key; Supplier Part Number 1: 311-100KCRCT-ND; Supplier 2: Mouser; Supplier Part Number 2: 603-RC0805FR-07100KL
footprint 0805 - RES - RESC2012X06N (Chip Resistor, 2-Leads, Body 2.0x1.3mm, IPC Medium Density)
pins: 1, 2

## RC0805FR-07100RL
designator R?  value 100  (hidden comment: RC0805FR-07100RL)
RES SMD 100 OHM 1% 1/8W 0805; Manufacturer: Yageo; Tolerance: 1%; Part Number: RC0805FR-07100RL; Supplier 1: Digi-Key; Supplier Part Number 1: 311-100CRCT-ND; Supplier 2: Mouser; Supplier Part Number 2: 603-RC0805FR-07100RL
footprint 0805 - RES - RESC2012X06N (Chip Resistor, 2-Leads, Body 2.0x1.3mm, IPC Medium Density)
pins: 1, 2

## RC0805FR-07330RL
designator R?  value 330
RES SMD 330 OHM 1% 1/8W 0805; Manufacturer: Yageo; Manufacturer Part Number: RC0805FR-07330RL; Resistance: 330R; Temperature Coefficient: 100ppm/°C; Power Rating: 125mW; Voltage Rating: 150V; Supplier 1: Digi-Key; RoHS: Yes; Category: Chip SMD Resistors; Stock 1: 1078658; Pricing 1: 1=0,10000, 10=0,03600, 100=0,01470, 1000=0,00660, 2500=0,00573 (USD); Case/Package: 0805; Case Code (Imperial): 0805; Case Code (Metric): 2012; Size Code: 0805; Min Operating Temperature: -55°C; Max Operating Temperature: 155°C; Tolerance: 1%; Packaging: Tape and Reel; Resistor Type: Thick Film; Number of Terminations: 2; Package Quantity: 5000; Termination: SMD/SMT; Max Power Dissipation: 125mW; Features: Moisture Resistant; Series: RC; Resistance Tolerance: 1%; Construction: Rectangular; Length: 2mm; Width: 0.049inch; Height: 0.024inch; Depth: 1.25mm; REACH SVHC: Unknown; Lead Free: Lead Free; Military Standard: Not; RoHS Compliant: Yes; ComponentLink1URL: https://datasheet.ciiva.com/12667/rc0805-12667925.pdf?src-supplier=Mouser; ComponentLink1Description: https://datasheet.ciiva.com/12667/rc0805-12667925.pdf?src-supplier=Mouser; ComponentLink2URL: https://datasheet.ciiva.com/2457/pyu-r-int-thick-7-2457014.pdf?src-supplier=Digi-Key; ComponentLink2Description: https://datasheet.ciiva.com/2457/pyu-r-int-thick-7-2457014.pdf?src-supplier=Digi-Key; ComponentLink3URL: https://datasheet.ciiva.com/2457/pyu-r-int-thick-7-2457015.pdf?src-supplier=Digi-Key; ComponentLink3Description: https://datasheet.ciiva.com/2457/pyu-r-int-thick-7-2457015.pdf?src-supplier=Digi-Key; ComponentLink4URL: https://datasheet.ciiva.com/2457/pyu-r-int-thick-7-2457016.pdf?src-supplier=Digi-Key; ComponentLink4Description: https://datasheet.ciiva.com/2457/pyu-r-int-thick-7-2457016.pdf?src-supplier=Digi-Key; ComponentLink5URL: https://datasheet.ciiva.com/7941/444164-7941768.pdf?src-supplier=Element14; ComponentLink5Description: https://datasheet.ciiva.com/7941/444164-7941768.pdf?src-supplier=Element14; ComponentLink6URL: https://datasheet.ciiva.com/7941/444164-7941769.pdf?src-supplier=Element14; ComponentLink6Description: https://datasheet.ciiva.com/7941/444164-7941769.pdf?src-supplier=Element14; ComponentLink7URL: https://datasheet.ciiva.com/16740/rc0805-16740975.pdf?src-supplier=Future+Electronics; ComponentLink7Description: https://datasheet.ciiva.com/16740/rc0805-16740975.pdf?src-supplier=Future+Electronics; Supplier Part Number 1: 311-330CRCT-ND
footprint 0805 - RES - RESC2012X06N (Chip Resistor, 2-Leads, Body 2.0x1.3mm, IPC Medium Density)
pins: 1, 2

## RC0805FR-07787KL
designator R?  value 787K  (hidden comment: RC0805FR-07787KL)
RES SMD 787K OHM 1% 1/8W 0805; Manufacturer: Yageo; Tolerance: 1%; Part Number: RC0805FR-07787KL; Supplier 1: Digi-Key; Supplier Part Number 1: 311-787KCRDKR-ND; Supplier 2: Digi-Key; Supplier Part Number 2: 311-787KCRCT-ND; Supplier 3: Mouser; Supplier Part Number 3: 603-RC0805FR-07787KL
footprint 0805 - RES - RESC2012X06N (Chip Resistor, 2-Leads, Body 2.0x1.3mm, IPC Medium Density)
pins: 1, 2

## RC1206FR-070RL
designator R?  value 0R
RES SMD 0.0 OHM JUMPER 1/4W 1206; Manufacturer: Yageo; Part Number: RC1206FR-070RL; Supplier 1: Digi-Key; Supplier Part Number 1: YAG3367DKR-ND; Supplier 2: Mouser; Supplier Part Number 2: 603-RC1206FR-070RL
footprint 1206 - RES - RESC3216X12N (Chip, 2-Leads, Body 3.2x1.6mm, IPC Medium Density)
pins: 1, 2

## RC1206FR-071K6L
designator R?  value 1.60K
RES SMD 1.6K OHM 1% 1/4W 1206; Manufacturer: Yageo; Part Number: RC1206FR-071K6L; Tolerance: 1%; Supplier 1: Digi-Key; Supplier Part Number 1: 311-1.60KFRDKR-ND; Supplier 2: Mouser; Supplier Part Number 2: 603-RC1206FR-071K6L
footprint 1206 - RES - RESC3216X12N (Chip, 2-Leads, Body 3.2x1.6mm, IPC Medium Density)
pins: 1, 2

## RC1206FR-071ML
designator R?  value 1.00M
RES 1.00M OHM 1/4W 1% 1206 SMD; Manufacturer: Yageo; Part Number: RC1206FR-071ML; Tolerance: 1%; Supplier 1: Digi-Key; Supplier 2: Mouser; Supplier Part Number 1: 311-1.00MFRCT-ND; Supplier Part Number 2: 603-RC1206FR-071ML
footprint 1206 - RES - RESC3216X12N (Chip, 2-Leads, Body 3.2x1.6mm, IPC Medium Density)
pins: 1, 2

## RC1206FR-072K1L
designator R?  value 2.10K
RES SMD 2.1K OHM 1% 1/4W 1206; Manufacturer: Yageo; Part Number: RC1206FR-072K1L; Supplier 1: Digi-Key; Supplier Part Number 1: 311-2.10KFRDKR-ND; Supplier 2: Mouser; Supplier Part Number 2: 603-RC1206FR-072K1L
footprint 1206 - RES - RESC3216X12N (Chip, 2-Leads, Body 3.2x1.6mm, IPC Medium Density)
pins: 1, 2

## RC1206FR-073K3L
designator R?  value 3.3K
RES SMD 3.3K OHM 1% 1/4W 1206; Manufacturer: Yageo; Part Number: RC1206FR-073K3L; Supplier 1: Digi-Key; Supplier Part Number 1: 311-3.30KFRCT-ND
footprint 1206 - RES - RESC3216X12N (Chip, 2-Leads, Body 3.2x1.6mm, IPC Medium Density)
pins: 1, 2

## RC1206FR-073KL
designator R?  value 3.00K
RES SMD 3K OHM 1% 1/4W 1206; Manufacturer: Yageo; Part Number: RC1206FR-073KL; Supplier 1: Digi-Key; Supplier Part Number 1: 311-3.00KFRDKR-ND; Supplier 2: Mouser; Supplier Part Number 2: 603-RC1206FR-073KL
footprint 1206 - RES - RESC3216X12N (Chip, 2-Leads, Body 3.2x1.6mm, IPC Medium Density)
pins: 1, 2

## RC1206FR-074K7L
designator R?  value 4.70K
RES SMD 4.7K OHM 1% 1/4W 1206; Manufacturer: Yageo; Part Number: RC1206FR-074K7L; Supplier 1: Digi-Key; Supplier Part Number 1: 311-4.70KFRDKR-ND; Supplier 2: Mouser; Supplier Part Number 2: 603-RC1206FR-074K7L
footprint 1206 - RES - RESC3216X12N (Chip, 2-Leads, Body 3.2x1.6mm, IPC Medium Density)
pins: 1, 2

## RC1206FR-074K12L
designator R?  value 4.12K
RES SMD 4.12K OHM 1% 1/4W 1206; Manufacturer: Yageo; Part Number: RC1206FR-074K12L; Supplier 1: Digi-Key; Supplier Part Number 1: 311-4.12KFRDKR-ND; Supplier 2: Mouser; Supplier Part Number 2: 603-RC1206FR-074K12L
footprint 1206 - RES - RESC3216X12N (Chip, 2-Leads, Body 3.2x1.6mm, IPC Medium Density)
pins: 1, 2

## RC1206FR-074K87L
designator R?  value 4.87K
RES SMD 4.87K OHM 1% 1/4W 1206; Manufacturer: Yageo; Part Number: RC1206FR-074K87L; Supplier 1: Digi-Key; Supplier Part Number 1: 311-4.87KFRDKR-ND; Supplier 2: Mouser; Supplier Part Number 2: 603-RC1206FR-074K87L
footprint 1206 - RES - RESC3216X12N (Chip, 2-Leads, Body 3.2x1.6mm, IPC Medium Density)
pins: 1, 2

## RC1206FR-078K06L
designator R?  value 8.06K
RES SMD 8.06K OHM 1% 1/4W 1206; Manufacturer: Yageo; Part Number: RC1206FR-078K06L; Supplier 1: Digi-Key; Supplier Part Number 1: 311-8.06KFRCT-ND; Supplier 2: Mouser; Supplier Part Number 2: 603-RC1206FR-078K06L
footprint 1206 - RES - RESC3216X12N (Chip, 2-Leads, Body 3.2x1.6mm, IPC Medium Density)
pins: 1, 2

## RC1206FR-0710KL
designator R?  value 10.0K
RES SMD 10K OHM 1% 1/4W 1206; Manufacturer: Yageo; Part Number: RC1206FR-0710KL; Supplier 1: Digi-Key; Supplier Part Number 1: 311-10.0KFRDKR-ND; Supplier 2: Mouser; Supplier Part Number 2: 603-RC1206FR-0710KL
footprint 1206 - RES - RESC3216X12N (Chip, 2-Leads, Body 3.2x1.6mm, IPC Medium Density)
pins: 1, 2

## RC1206FR-0721KL
designator R?  value 21.0K
RES SMD 21K OHM 1% 1/4W 1206; Manufacturer: Yageo; Part Number: RC1206FR-0721KL; Supplier 1: Digi-Key; Supplier Part Number 1: 311-21.0KFRDKR-ND; Supplier 2: Mouser; Supplier Part Number 2: 603-RC1206FR-0721KL
footprint 1206 - RES - RESC3216X12N (Chip, 2-Leads, Body 3.2x1.6mm, IPC Medium Density)
pins: 1, 2

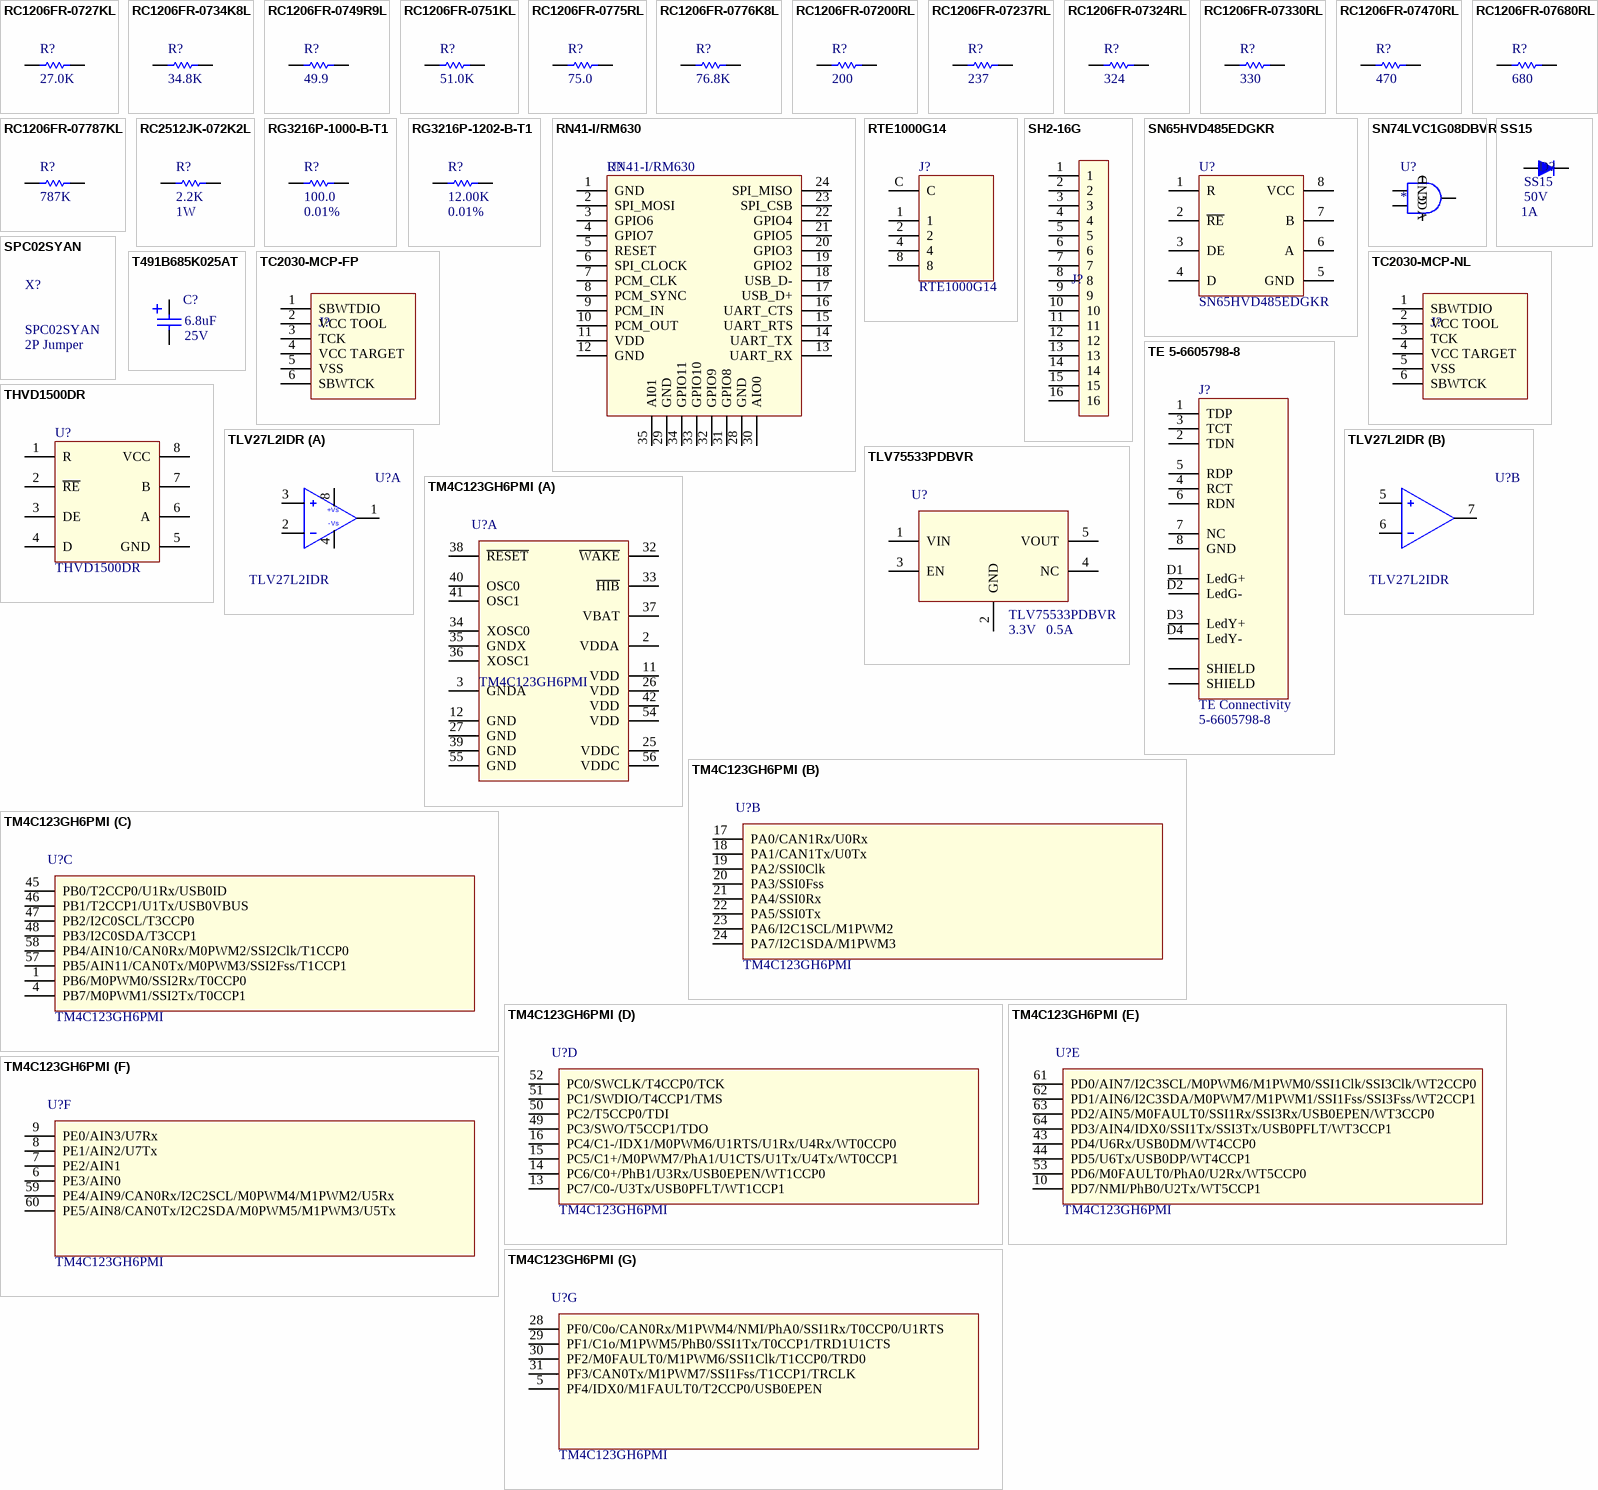
[diagram p5: symbols RC1206FR-0727KL to TM4C123GH6PMI]

## RC1206FR-0727KL
designator R?  value 27.0K
RES SMD 27K OHM 1% 1/4W 1206; Manufacturer: Yageo; Part Number: RC1206FR-0727KL; Tolerance: 1%; Supplier 1: Digi-Key; Supplier Part Number 1: 311-27.0KFRDKR-ND; Supplier 2: Mouser; Supplier Part Number 2: 603-RC1206FR-0727KL
footprint 1206 - RES - RESC3216X12N (Chip, 2-Leads, Body 3.2x1.6mm, IPC Medium Density)
pins: 1, 2

## RC1206FR-0734K8L
designator R?  value 34.8K
RES SMD 34.8K OHM 1% 1/4W 1206; Manufacturer: Yageo; Part Number: RC1206FR-0734K8L; Supplier 1: Digi-Key; Supplier Part Number 1: 311-34.8KFRDKR-ND; Supplier 2: Mouser; Supplier Part Number 2: 603-RC1206FR-0734K8L
footprint 1206 - RES - RESC3216X12N (Chip, 2-Leads, Body 3.2x1.6mm, IPC Medium Density)
pins: 1, 2

## RC1206FR-0749R9L
designator R?  value 49.9
RES SMD 49.9 OHM 1% 1/4W 1206; Manufacturer: Yageo; Part Number: RC1206FR-0749R9L; Supplier 1: Digi-Key; Supplier Part Number 1: 311-49.9FRDKR-ND; Supplier 2: Mouser; Supplier Part Number 2: 603-RC1206FR-0749R9L
footprint 1206 - RES - RESC3216X12N (Chip, 2-Leads, Body 3.2x1.6mm, IPC Medium Density)
pins: 1, 2

## RC1206FR-0751KL
designator R?  value 51.0K
RES SMD 51K OHM 1% 1/4W 1206; Manufacturer: Yageo; Part Number: RC1206FR-0751KL; Tolerance: 1%; Supplier 1: Digi-Key; Supplier Part Number 1: 311-51.0KFRDKR-ND; Supplier 2: Mouser; Supplier Part Number 2: 603-RC1206FR-0751KL
footprint 1206 - RES - RESC3216X12N (Chip, 2-Leads, Body 3.2x1.6mm, IPC Medium Density)
pins: 1, 2

## RC1206FR-0775RL
designator R?  value 75.0
RES SMD 75 OHM 1% 1/4W 1206; Manufacturer: Yageo; Part Number: RC1206FR-0775RL; Supplier 1: Digi-Key; Supplier Part Number 1: 311-75.0FRDKR-ND; Supplier 2: Mouser; Supplier Part Number 2: 603-RC1206FR-0775RL
footprint 1206 - RES - RESC3216X12N (Chip, 2-Leads, Body 3.2x1.6mm, IPC Medium Density)
pins: 1, 2

## RC1206FR-0776K8L
designator R?  value 76.8K
RES SMD 76.8K OHM 1% 1/4W 1206; Manufacturer: Yageo; Part Number: RC1206FR-0776K8L; Supplier 1: Digi-Key; Supplier Part Number 1: 311-76.8KFRCT-ND; Supplier 2: Mouser; Supplier Part Number 2: 603-RC1206FR-0776K8L
footprint 1206 - RES - RESC3216X12N (Chip, 2-Leads, Body 3.2x1.6mm, IPC Medium Density)
pins: 1, 2

## RC1206FR-07200RL
designator R?  value 200
RES SMD 200 OHM 1% 1/4W 1206; Manufacturer: Yageo; Part Number: RC1206FR-07200RL; Supplier 1: Digi-Key; Supplier Part Number 1: 311-200FRDKR-ND; Supplier 2: Mouser; Supplier Part Number 2: 603-RC1206FR-07200RL
footprint 1206 - RES - RESC3216X12N (Chip, 2-Leads, Body 3.2x1.6mm, IPC Medium Density)
pins: 1, 2

## RC1206FR-07237RL
designator R?  value 237
RES SMD 237 OHM 1% 1/4W 1206; Manufacturer: Yageo; Part Number: RC1206FR-07237RL; Supplier 1: Digi-Key; Supplier Part Number 1: 311-237FRDKR-ND; Supplier 2: Mouser; Supplier Part Number 2: 603-RC1206FR-07237RL
footprint 1206 - RES - RESC3216X12N (Chip, 2-Leads, Body 3.2x1.6mm, IPC Medium Density)
pins: 1, 2

## RC1206FR-07324RL
designator R?  value 324
RES SMD 324 OHM 1% 1/4W 1206; Manufacturer: Yageo; Part Number: RC1206FR-07324RL; Supplier 1: Digi-Key; Supplier Part Number 1: 311-324FRDKR-ND; Supplier 2: Mouser; Supplier Part Number 2: 603-RC1206FR-07324RL
footprint 1206 - RES - RESC3216X12N (Chip, 2-Leads, Body 3.2x1.6mm, IPC Medium Density)
pins: 1, 2

## RC1206FR-07330RL
designator R?  value 330
RES SMD 330 OHM 1% 1/4W 1206; Manufacturer: Yageo; Part Number: RC1206FR-07330RL; Supplier 1: Digi-Key; Supplier Part Number 1: 311-330FRDKR-ND; Supplier 2: Mouser; Supplier Part Number 2: 603-RC1206FR-07330RL
footprint 1206 - RES - RESC3216X12N (Chip, 2-Leads, Body 3.2x1.6mm, IPC Medium Density)
pins: 1, 2

## RC1206FR-07470RL
designator R?  value 470
RES SMD 470 OHM 1% 1/4W 1206; Manufacturer: Yageo; Part Number: RC1206FR-07470RL; Supplier 1: Digi-Key; Supplier Part Number 1: 311-470FRCT-ND
footprint 1206 - RES - RESC3216X12N (Chip, 2-Leads, Body 3.2x1.6mm, IPC Medium Density)
pins: 1, 2

## RC1206FR-07680RL
designator R?  value 680
RES SMD 680 OHM 1% 1/4W 1206; Manufacturer: Yageo; Part Number: RC1206FR-07680RL; Supplier 1: Digi-Key; Supplier Part Number 1: 311-680FRDKR-ND; Supplier 2: Mouser; Supplier Part Number 2: 603-RC1206FR-07680RL
footprint 1206 - RES - RESC3216X12N (Chip, 2-Leads, Body 3.2x1.6mm, IPC Medium Density)
pins: 1, 2

## RC1206FR-07787KL
designator R?  value 787K
RES SMD 787K OHM 1% 1/4W 1206; Manufacturer: Yageo; Part Number: RC1206FR-07787KL; Tolerance: 1%; Supplier 1: Digi-Key; Supplier Part Number 1: 311-787KFRCT-ND; Supplier 2: Mouser; Supplier Part Number 2: 603-RC1206FR-07787KL
footprint 1206 - RES - RESC3216X12N (Chip, 2-Leads, Body 3.2x1.6mm, IPC Medium Density)
pins: 1, 2

## RC2512JK-072K2L
designator R?  value 2.2K  Power: 1W
RES SMD 2.2K OHM 5% 1W 2512; Manufacturer: Yageo; Part Number: RC2512JK-072K2L; Tolerance: 5%; Supplier 1: Digi-Key; Supplier Part Number 1: YAG3401CT-ND
footprint 2512 - RES - RESC6431X07N (Chip Resistor, 2-Leads, Body 6.35x3.10mm, IPC Medium Density)
pins: 1, 2

## RG3216P-1000-B-T1
designator R?  value 100.0  Tolerance: 0.01%
RES SMD 100 OHM 0.1% 1/4W 1206; Manufacturer: Susumu; Part Number: RG3216P-1000-B-T1; Supplier 1: Digi-Key; Supplier Part Number 1: RG32P100BDKR-ND; Supplier 2: Mouser; Supplier Part Number 2: 754-RG3216P-1000-BT1
footprint 1206 - RES - RESC3216X12N (Chip, 2-Leads, Body 3.2x1.6mm, IPC Medium Density)
pins: 1, 2

## RG3216P-1202-B-T1
designator R?  value 12.00K  Tolerance: 0.01%
RES SMD 12K OHM 0.1% 1/4W 1206; Manufacturer: Susumu; Part Number: RG3216P-1202-B-T1; Supplier 1: Digi-Key; Supplier Part Number 1: RG32P12.0KBCT-ND; Supplier 2: Mouser; Supplier Part Number 2: 754-RG3216P-1202-BT1
footprint 1206 - RES - RESC3216X12N (Chip, 2-Leads, Body 3.2x1.6mm, IPC Medium Density)
pins: 1, 2

## RN41-I/RM630
designator U?  Part Number: RN41-I/RM630
RF TXRX MOD BLUETOOTH CHIP ANT; Manufacturer: Microchip Technology; Supplier 1: Digi-Key; Supplier Part Number 1: RN41-I/RM630-ND
footprint RN42-LAND (RN42 Footprint)
pins: 1 GND, 2 SPI_MOSI, 3 GPIO6, 4 GPIO7, 5 RESET, 6 SPI_CLOCK, 7 PCM_CLK, 8 PCM_SYNC, 9 PCM_IN, 10 PCM_OUT, 11 VDD, 12 GND, 13 UART_RX, 14 UART_TX, 15 UART_RTS, 16 UART_CTS, 17 USB_D+, 18 USB_D-, 19 GPIO2, 20 GPIO3, 21 GPIO5, 22 GPIO4, 23 SPI_CSB, 24 SPI_MISO, 28 GND, 29 GND, 30 AIO0, 31 GPIO8, 32 GPIO9, 33 GPIO10, 34 GPIO11, 35 AI01

## RTE1000G14
designator J?
SWITCH ROTARY DIP BCD 100MA 30V; Manufacturer: C&K; Supplier 1: Digi-Key; Supplier Part Number 1: 401-1870-1-ND; Supplier 2: Mouser; Supplier Part Number 2: 611-RTE1000G14; Part Number: RTE1000G14
footprint RTE1000G14 (SWITCH ROTARY DIP BCD)
pins: 1, 2, 4, 8, C

## SH2-16G
designator J?
Conn Socket Strip SKT 16 POS 2.54mm Solder ST Thru-Hole; Manufacturer: On-Shore Technology; Manufacturer Part Number: SH2-16G; Connector Type: Receptacle,Socket; Number of Positions: 16; Pitch: 0.1inch; Supplier 1: Digi-Key; RoHS: No; Category: Connectors; Stock 1: 4704; Pricing 1: 1=0,48000, 10=0,45000, 100=0,34500, 500=0,30000, 1000=0,24750, 5000=0,21750, 10000=0,20250 (USD); Mount: Through Hole; Color: Black; Contact Plating: Gold; Packaging: Bulk; Termination: Solder; Number of Rows: 2; Row Spacing: 0.1inch; ComponentLink1URL: https://datasheet.ciiva.com/756/ipg5-0-756351.pdf?src-supplier=Digi-Key; ComponentLink1Description: https://datasheet.ciiva.com/756/ipg5-0-756351.pdf?src-supplier=Digi-Key
footprint SH2-16G
pins: 1, 2, 3, 4, 5, 6, 7, 8, 9, 10, 11, 12, 13, 14, 15, 16

## SN65HVD485EDGKR
designator U?
Transceiver Half 1/1 RS485 8VSSOP; Manufacturer: Texas Instruments; Supplier 1: Digi-Key; Supplier Part Number 1: 296-17174-1-ND; Supplier 2: Mouser; Supplier Part Number 2: 595-SN65HVD485EDGKR; Part Number: SN65HVD485EDGKR
footprint VSSOP8 (TSOP, 8-Leads, Body 3.00x3.00mm, Pitch 0.65mm, IPC Medium Density)
pins: 1 R, 2 ~{RE}, 3 DE, 4 D, 5 GND, 6 A, 7 B, 8 VCC

## SN74LVC1G08DBVR
designator U?
Gate AND 1Ch SOT23-5; Manufacturer: Fairchild; Part Number: SN74LVC1G08DBVR; Supplier 1: Digi-Key; Supplier Part Number 1: 296-11601-1-ND; Supplier 2: Mouser; Supplier Part Number 2: 595-SN74LVC1G08DBVR
footprint SOT23-5 (SOT23, 5-Leads, Body 3.13x2.80mm, Pitch 0.95mm, IPC Medium Density)
pins: 1 A, 2 B, 3 GND, 4 Y, 5 VCC

## SPC02SYAN
designator X?  Text: 2P Jumper  (hidden comment: SPC02SYAN)  (mechanical)
CONN JUMPER SHORTING GOLD FLASH; Manufacturer: Sullins Connector Solutions; Supplier 1: Digi-Key; Supplier Part Number 1: S9001-ND; Part Number: SPC02SYAN

## SS15
designator D?  Voltage: 50V  Current: 1A  (hidden comment: SS15)
DIODE SCHOTTKY 50V 1A SMA; Manufacturer: On Semiconductors; Supplier 1: Digi-Key; Supplier Part Number 1: SS15FSCT-ND; Supplier 2: Mouser; Supplier Part Number 2: 512-SS15; Part Number: SS15
footprint DIOM4427X27N (Molded Diode, 2-Leads, Body 4,38x2,73mm, IPC Medium Density)
pins: 1 A, 2 K

## T491B685K025AT
designator C?  value 6.8uF  Voltage: 25V
CAP TANT 6.8UF 25V 10% 1411; Part Number: T491B685K025AT; Manufacturer: Kemet; Supplier 1: Digi-Key; Supplier 2: Mouser; Supplier Part Number 1: 399-3728-1-ND; Supplier Part Number 2: 80-T491B685K025
footprint Tantalum Case B
pins: 1, 2

## TC2030-MCP-FP
designator J?  (value not drawn)  (no BOM)
TC2030-MCP PLUG-OF-NAILS CABLE CONNECTOR
footprint TC2030-MCP-FP
pins: 1 SBWTDIO, 2 VCC TOOL, 3 TCK, 4 VCC TARGET, 5 VSS, 6 SBWTCK

## TC2030-MCP-NL
designator J?  (value not drawn)  (no BOM)
TC2030-MCP-NL PLUG-OF-NAILS CABLE CONNECTOR
footprint TC2030-MCP-NL
pins: 1 SBWTDIO, 2 VCC TOOL, 3 TCK, 4 VCC TARGET, 5 VSS, 6 SBWTCK

## TE 5-6605798-8
designator J?  Manufacturer: TE Connectivity  part Number: 5-6605798-8
CONN MOD MAG JACK R/A SHIELDED; Supplier 1: Digi-Key; Supplier 2: Mouser; Supplier Part Number 1: 5-6605798-8-ND; Supplier Part Number 2: 571-5-6605798-8
footprint TE 5-6605798-8 (CONN MOD MAG JACK R/A SHIELDED)
pins: 1 TDP, 2 TDN, 3 TCT, 4 RCT, 5 RDP, 6 RDN, 7 NC, 8 GND, D1 LedG+, D2 LedG-, D3 LedY+, D4 LedY-, ETH1 SHIELD, ETH2 SHIELD

## THVD1500DR
designator U?
Transceiver Half RS485 8-SOIC; Manufacturer: Texas Instruments; Supplier 1: Digi-Key; Supplier Part Number 1: 296-48170-1-ND; Supplier 2: Mouser; Supplier Part Number 2: 595-THVD1500DR; Part Number: THVD1500DR
footprint SOIC8 (SOIC, 8-Leads, Body 5.0x4.0mm (max), Pitch 1.27mm, IPC Medium Density)
pins: 1 R, 2 ~{RE}, 3 DE, 4 D, 5 GND, 6 A, 7 B, 8 VCC

## TLV27L2IDR
designator U?
IC OPAMP GP 2 CIRCUIT 8SOIC; Manufacturer: Texas Instruments; Supplier 1: Digi-Key; Supplier Part Number 1: 296-12230-1-ND; Supplier 2: Mouser; Supplier Part Number 2: 595-TLV27L2IDR; Part Number: TLV27L2IDR
footprint SOIC127P600X175-8N (SOIC, 8-Leads, Body 4,90x3,90mm, Pitch 1,27mm, IPC Medium Density)
part A pins: 1 OutA, 2 -InA, 3 +InA, 4 -Vs (power), 8 +VS (power)
part B pins: 5 +InB, 6 -InB, 7 OutB
part A text: +Vs

## TLV75533PDBVR
designator U?  Voltage: 3.3V  Current: 0.5A  (hidden comment: TLV75533PDBVR)
IC REG LINEAR 3.3V 500MA SOT23-5; Manufacturer: Texas Instruments; Supplier 1: Digi-Key; Supplier Part Number 1: 296-50411-1-ND; Supplier 2: Mouser; Supplier Part Number 2: 595-TLV75533PDBVR; Part Number: TLV75533PDBVR
footprint SOT23-5 (SOT23, 5-Leads, Body 3.13x2.80mm, Pitch 0.95mm, IPC Medium Density)
pins: 1 VIN, 2 GND, 3 EN, 4 NC, 5 VOUT

## TM4C123GH6PMI
designator U?  Part Number: TM4C123GH6PMI  (hidden comment: *)
IC MCU 32BIT 256KB FLASH 64LQFP; Manufacturer: Texas Instruments; Supplier 1: Digi-Key; Supplier Part Number 1: 296-35848-ND; Supplier 2: Mouser; Supplier Part Number 2: 595-TM4C123GH6PMI
footprint TQFP - 64 - TSQFP50P1200X1200X160-64M (TSQFP, 64-Leads, Body 12,0x12,0mm (max), Pitch 0,50mm, IPC Low Density)
part A pins: 2 VDDA, 3 GNDA, 11 VDD, 12 GND, 25 VDDC, 26 VDD, 27 GND, 32 ~{WAKE}, 33 ~{HIB}, 34 XOSC0, 35 GNDX, 36 XOSC1, 37 VBAT, 38 ~{RESET}, 39 GND, 40 OSC0, 41 OSC1, 42 VDD, 54 VDD, 55 GND, 56 VDDC
part B pins: 17 PA0/CAN1Rx/U0Rx, 18 PA1/CAN1Tx/U0Tx, 19 PA2/SSI0Clk, 20 PA3/SSI0Fss, 21 PA4/SSI0Rx, 22 PA5/SSI0Tx, 23 PA6/I2C1SCL/M1PWM2, 24 PA7/I2C1SDA/M1PWM3
part C pins: 1 PB6/M0PWM0/SSI2Rx/T0CCP0, 4 PB7/M0PWM1/SSI2Tx/T0CCP1, 45 PB0/T2CCP0/U1Rx/USB0ID, 46 PB1/T2CCP1/U1Tx/USB0VBUS, 47 PB2/I2C0SCL/T3CCP0, 48 PB3/I2C0SDA/T3CCP1, 57 PB5/AIN11/CAN0Tx/M0PWM3/SSI2Fss/T1CCP1, 58 PB4/AIN10/CAN0Rx/M0PWM2/SSI2Clk/T1CCP0
part D pins: 13 PC7/C0-/U3Tx/USB0PFLT/WT1CCP1, 14 PC6/C0+/PhB1/U3Rx/USB0EPEN/WT1CCP0, 15 PC5/C1+/M0PWM7/PhA1/U1CTS/U1Tx/U4Tx/WT0CCP1, 16 PC4/C1-/IDX1/M0PWM6/U1RTS/U1Rx/U4Rx/WT0CCP0, 49 PC3/SWO/T5CCP1/TDO, 50 PC2/T5CCP0/TDI, 51 PC1/SWDIO/T4CCP1/TMS, 52 PC0/SWCLK/T4CCP0/TCK
part E pins: 10 PD7/NMI/PhB0/U2Tx/WT5CCP1, 43 PD4/U6Rx/USB0DM/WT4CCP0, 44 PD5/U6Tx/USB0DP/WT4CCP1, 53 PD6/M0FAULT0/PhA0/U2Rx/WT5CCP0, 61 PD0/AIN7/I2C3SCL/M0PWM6/M1PWM0/SSI1Clk/SSI3Clk/WT2CCP0, 62 PD1/AIN6/I2C3SDA/M0PWM7/M1PWM1/SSI1Fss/SSI3Fss/WT2CCP1, 63 PD2/AIN5/M0FAULT0/SSI1Rx/SSI3Rx/USB0EPEN/WT3CCP0, 64 PD3/AIN4/IDX0/SSI1Tx/SSI3Tx/USB0PFLT/WT3CCP1
part F pins: 6 PE3/AIN0, 7 PE2/AIN1, 8 PE1/AIN2/U7Tx, 9 PE0/AIN3/U7Rx, 59 PE4/AIN9/CAN0Rx/I2C2SCL/M0PWM4/M1PWM2/U5Rx, 60 PE5/AIN8/CAN0Tx/I2C2SDA/M0PWM5/M1PWM3/U5Tx
part G pins: 5 PF4/IDX0/M1FAULT0/T2CCP0/USB0EPEN, 28 PF0/C0o/CAN0Rx/M1PWM4/NMI/PhA0/SSI1Rx/T0CCP0/U1RTS, 29 PF1/C1o/M1PWM5/PhB0/SSI1Tx/T0CCP1/TRD1U1CTS, 30 PF2/M0FAULT0/M1PWM6/SSI1Clk/T1CCP0/TRD0, 31 PF3/CAN0Tx/M1PWM7/SSI1Fss/T1CCP1/TRCLK

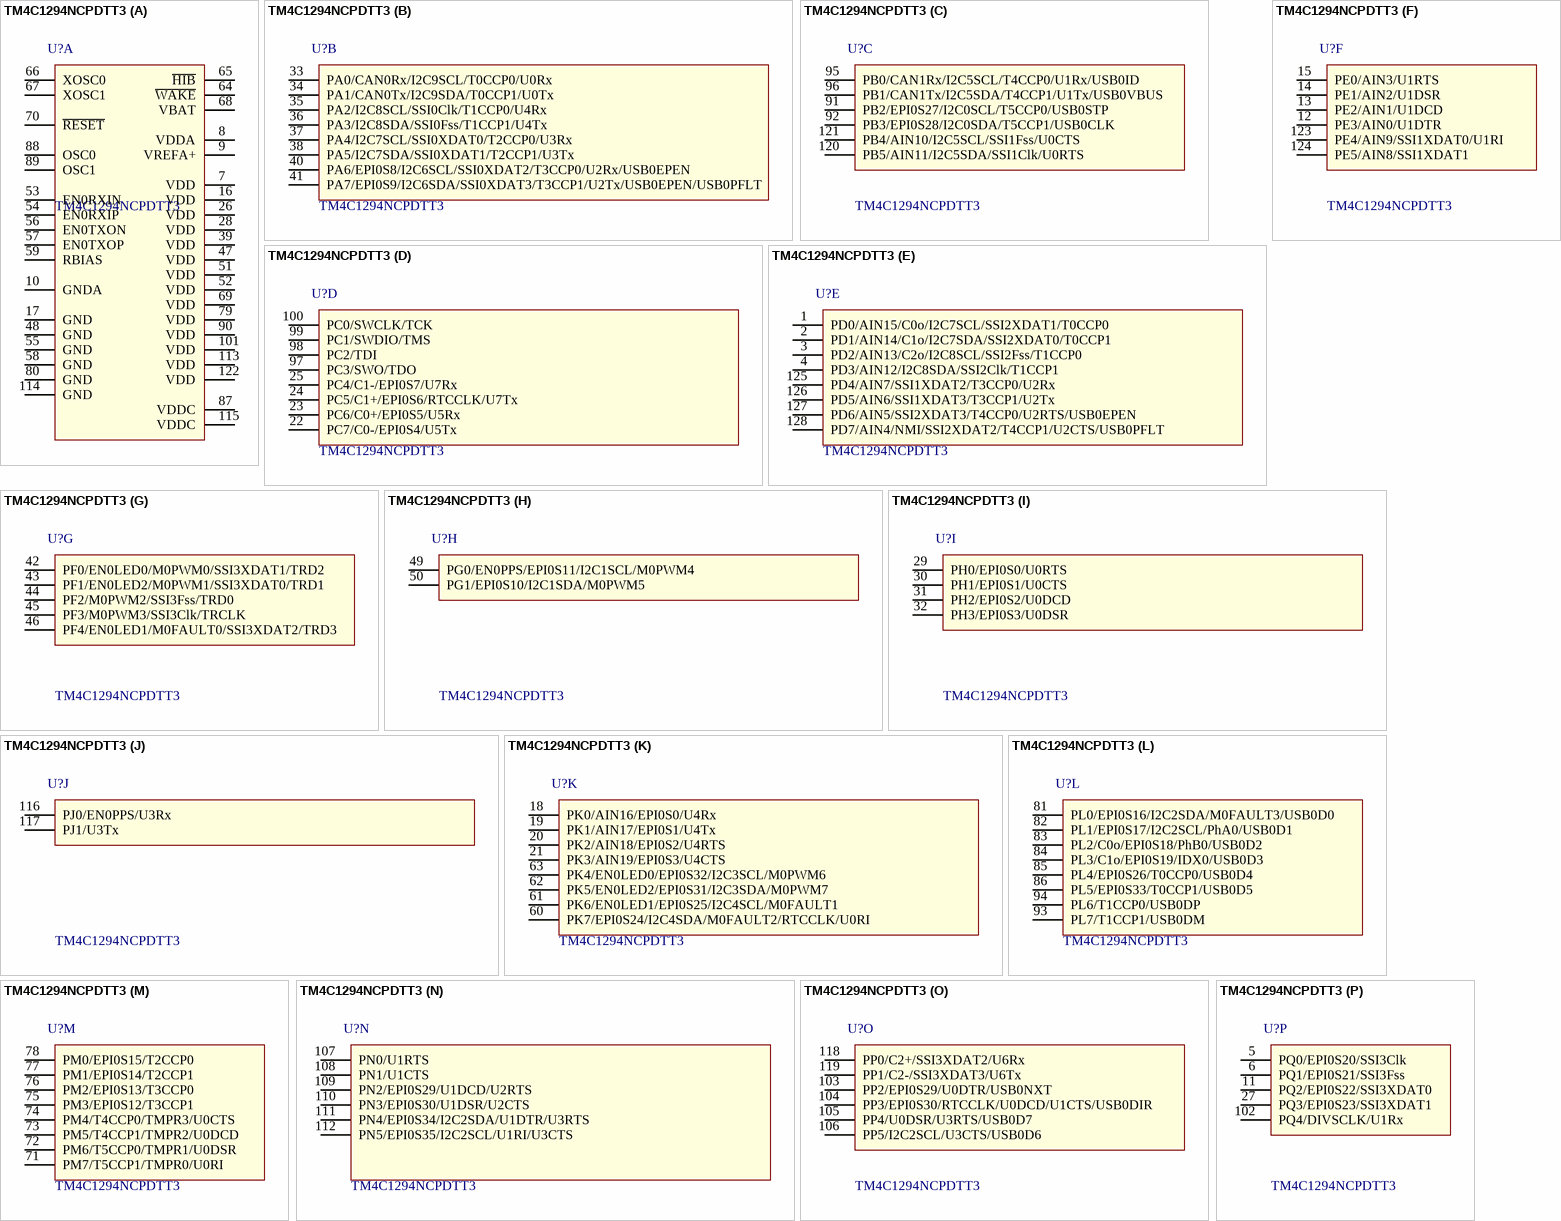
[diagram p6: symbol TM4C1294NCPDTT3]